# Altium integrated library Lattice ORCA Series 2.IntLib: 202 symbols (part 12 of 22)
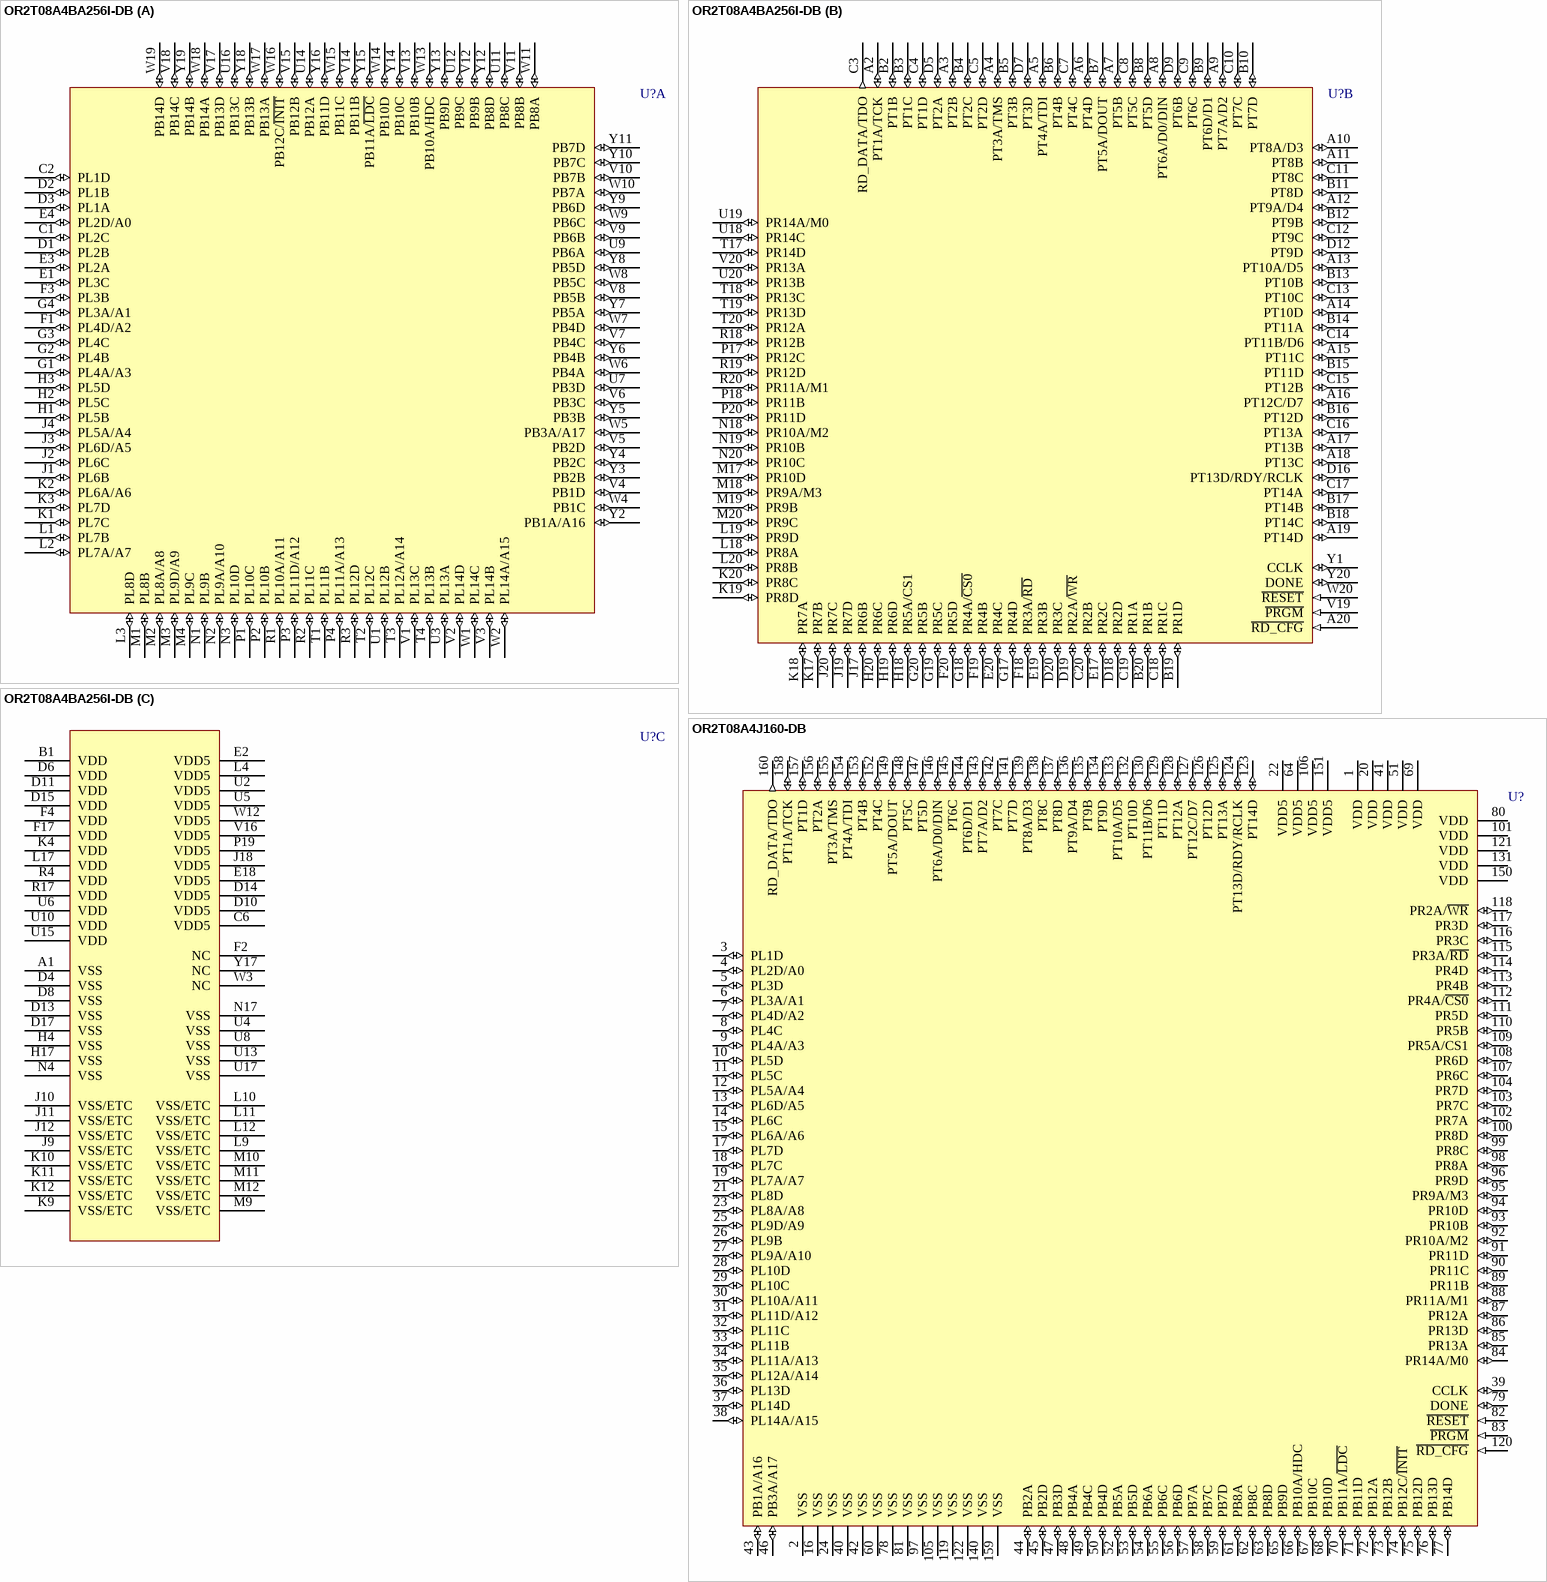
[diagram p203: symbols OR2T08A4BA256I-DB to OR2T08A4J160-DB]

## OR2T08A4BA256I-DB
designator U?
ORCA Series 2C FPGA: 3.3 V, Industrial Grade, 224 User I/Os.; PinConnectionRecommendation: Ground array of 'VSS-ETC' pins for enhanced thermal capability or leave unconnected.; Published: 21-May-2003; LatestRevisionDate: 13-Apr-2006; LatestRevisionNote: IPC-7351 Footprint Added.; DatasheetVersion: Jan-2003; PackageVersion: pkg_32, Aug-2005; PackageReference: BGA272; Publisher: Altium Limited; PackageDescription: 272-Ball Ball Grid Array (BGA272); ComponentLink1Description: Manufacturer Link; ComponentLink1URL: http://www.latticesemi.com/products/fpga/orca/orca2/index.cfm; ComponentLink2Description: Datasheet; ComponentLink2URL: http://www.latticesemi.com/lit/docs/datasheets/fpga/ds99-094fpga.pdf; ComponentLink3Description: Lattice Login; ComponentLink3URL: http://www.latticesemi.com/account/login.cfm
footprint BGA272 (BGA, 272-Leads, Body 27x27mm, Pitch 1.27mm)
3D model OR2T08A-BGA272 (272-Ball Ball Grid Array (BGA272))
part A pins: C1 PL2C (io), C2 PL1D (io), D1 PL2B (io), D2 PL1B (io), D3 PL1A (io), E1 PL3C (io), E3 PL2A (io), E4 PL2D/A0 (io), F1 PL4D/A2 (io), F3 PL3B (io), G1 PL4A/A3 (io), G2 PL4B (io), G3 PL4C (io), G4 PL3A/A1 (io), H1 PL5B (io), H2 PL5C (io), H3 PL5D (io), J1 PL6B (io), J2 PL6C (io), J3 PL6D/A5 (io), J4 PL5A/A4 (io), K1 PL7C (io), K2 PL6A/A6 (io), K3 PL7D (io), L1 PL7B (io), L2 PL7A/A7 (io), L3 PL8D (io), M1 PL8B (io), M2 PL8A/A8 (io), M3 PL9D/A9 (io), M4 PL9C (io), N1 PL9B (io), N2 PL9A/A10 (io), N3 PL10D (io), P1 PL10C (io), P2 PL10B (io), P3 PL11D/A12 (io), P4 PL11A/A13 (io), R1 PL10A/A11 (io), R2 PL11C (io), R3 PL12D (io), T1 PL11B (io), T2 PL12C (io), T3 PL12A/A14 (io), T4 PL13B (io), U1 PL12B (io), U3 PL13A (io), U7 PB3D (io), U9 PB6A (io), U11 PB8C (io), U12 PB9C (io), U14 PB12A (io), U16 PB13C (io), V1 PL13C (io), V2 PL14D (io), V3 PL14B (io), V4 PB1D (io), V5 PB2D (io), V6 PB3C (io), V7 PB4C (io), V8 PB5B (io), V9 PB6B (io), V10 PB7B (io), V11 PB8B (io), V12 PB9B (io), V13 PB10B (io), V14 PB11B (io), V15 PB12B (io), V17 PB13D (io), V18 PB14C (io), W1 PL14C (io), W2 PL14A/A15 (io), W4 PB1C (io), W5 PB3A/A17 (io), W6 PB4A (io), W7 PB4D (io), W8 PB5C (io), W9 PB6C (io), W10 PB7A (io), W11 PB8A (io), W13 PB10A/HDC (io), W14 PB10D (io), W15 PB11C (io), W16 PB12C/~{INIT} (io), W17 PB13A (io), W18 PB14A (io), W19 PB14D (io), Y2 PB1A/A16 (io), Y3 PB2B (io), Y4 PB2C (io), Y5 PB3B (io), Y6 PB4B (io), Y7 PB5A (io), Y8 PB5D (io), Y9 PB6D (io), Y10 PB7C (io), Y11 PB7D (io), Y12 PB8D (io), Y13 PB9D (io), Y14 PB10C (io), Y15 PB11A/~{LDC} (io), Y16 PB11D (io), Y18 PB13B (io), Y19 PB14B (io)
part B pins: A2 PT1A/TCK (io), A3 PT2B (io), A4 PT3A/TMS (io), A5 PT4A/TDI (io), A6 PT4D (io), A7 PT5B (io), A8 PT6A/D0/DIN (io), A9 PT7A/D2 (io), A10 PT8A/D3 (io), A11 PT8B (io), A12 PT9A/D4 (io), A13 PT10A/D5 (io), A14 PT10D (io), A15 PT11C (io), A16 PT12C/D7 (io), A17 PT13B (io), A18 PT13C (io), A19 PT14D (io), A20 ~{RD_CFG} (in), B2 PT1B (io), B3 PT1C (io), B4 PT2C (io), B5 PT3B (io), B6 PT4B (io), B7 PT5A/DOUT (io), B8 PT5D (io), B9 PT6D/D1 (io), B10 PT7D (io), B11 PT8D (io), B12 PT9B (io), B13 PT10B (io), B14 PT11A (io), B15 PT11D (io), B16 PT12D (io), B17 PT14B (io), B18 PT14C (io), B19 PR1D (io), B20 PR1B (io), C3 RD_DATA/TDO (out), C4 PT1D (io), C5 PT2D (io), C7 PT4C (io), C8 PT5C (io), C9 PT6C (io), C10 PT7C (io), C11 PT8C (io), C12 PT9C (io), C13 PT10C (io), C14 PT11B/D6 (io), C15 PT12B (io), C16 PT13A (io), C17 PT14A (io), C18 PR1C (io), C19 PR1A (io), C20 PR2B (io), D5 PT2A (io), D7 PT3D (io), D9 PT6B (io), D12 PT9D (io), D16 PT13D/RDY/RCLK (io), D18 PR2D (io), D19 PR2A/~{WR} (io), D20 PR3C (io), E17 PR2C (io), E19 PR3B (io), E20 PR4C (io), F18 PR3A/~{RD} (io), F19 PR4B (io), F20 PR5D (io), G17 PR4D (io), G18 PR4A/~{CS0} (io), G19 PR5C (io), G20 PR5B (io), H18 PR5A/CS1 (io), H19 PR6D (io), H20 PR6C (io), J17 PR6B (io), J19 PR7D (io), J20 PR7C (io), K17 PR7B (io), K18 PR7A (io), K19 PR8D (io), K20 PR8C (io), L18 PR8A (io), L19 PR9D (io), L20 PR8B (io), M17 PR10D (io), M18 PR9A/M3 (io), M19 PR9B (io), M20 PR9C (io), N18 PR10A/M2 (io), N19 PR10B (io), N20 PR10C (io), P17 PR12C (io), P18 PR11B (io), P20 PR11D (io), R18 PR12B (io), R19 PR12D (io), R20 PR11A/M1 (io), T17 PR14D (io), T18 PR13C (io), T19 PR13D (io), T20 PR12A (io), U18 PR14C (io), U19 PR14A/M0 (io), U20 PR13B (io), V19 ~{PRGM} (in), V20 PR13A (io), W20 ~{RESET} (in), Y1 CCLK (io), Y20 DONE (io)
part C pins: A1 VSS (power), B1 VDD (power), C6 VDD5 (power), D4 VSS (power), D6 VDD (power), D8 VSS (power), D10 VDD5 (power), D11 VDD (power), D13 VSS (power), D14 VDD5 (power), D15 VDD (power), D17 VSS (power), E2 VDD5 (power), E18 VDD5 (power), F2 NC, F4 VDD (power), F17 VDD (power), H4 VSS (power), H17 VSS (power), J9 VSS/ETC (power), J10 VSS/ETC (power), J11 VSS/ETC (power), J12 VSS/ETC (power), J18 VDD5 (power), K4 VDD (power), K9 VSS/ETC (power), K10 VSS/ETC (power), K11 VSS/ETC (power), K12 VSS/ETC (power), L4 VDD5 (power), L9 VSS/ETC (power), L10 VSS/ETC (power), L11 VSS/ETC (power), L12 VSS/ETC (power), L17 VDD (power), M9 VSS/ETC (power), M10 VSS/ETC (power), M11 VSS/ETC (power), M12 VSS/ETC (power), N4 VSS (power), N17 VSS (power), P19 VDD5 (power), R4 VDD (power), R17 VDD (power), U2 VDD5 (power), U4 VSS (power), U5 VDD5 (power), U6 VDD (power), U8 VSS (power), U10 VDD (power), U13 VSS (power), U15 VDD (power), U17 VSS (power), V16 VDD5 (power), W3 NC, W12 VDD5 (power), Y17 NC

## OR2T08A4J160-DB
designator U?
ORCA Series 2C FPGA: 3.3 V, Commercial Grade, 224 User I/Os.; Published: 21-May-2003; LatestRevisionDate: 13-Apr-2006; LatestRevisionNote: IPC-7351 Footprint Added.; DatasheetVersion: Jan-2003; PackageVersion: pkg_32, Aug-2005; PackageReference: PQFP160; Publisher: Altium Limited; PackageDescription: 160-Pin Quad Flat Pack 0.65 mm Pitch; Code_IPC: QFP65P3120X3120-160; ComponentLink1Description: Manufacturer Link; ComponentLink1URL: http://www.latticesemi.com/products/fpga/orca/orca2/index.cfm; ComponentLink2Description: Datasheet; ComponentLink2URL: http://www.latticesemi.com/lit/docs/datasheets/fpga/ds99-094fpga.pdf; ComponentLink3Description: Lattice Login; ComponentLink3URL: http://www.latticesemi.com/account/login.cfm
footprint PQFP160_N (QFP, 160-Leads, Body 28 x 28mm, Pitch 0.65mm, IPC Medium Density)
footprint PQFP160_L (QFP, 160-Leads, Body 28 x 28mm, Pitch 0.65mm, IPC High Density)
footprint PQFP160_M (QFP, 160-Leads, Body 28 x 28mm, Pitch 0.65mm, IPC Low Density)
3D model OR2T08A-PQFP160 (160-Pin Quad Flat Pack 0.65 mm Pitch)
pins: 1 VDD (power), 2 VSS (power), 3 PL1D (io), 4 PL2D/A0 (io), 5 PL3D (io), 6 PL3A/A1 (io), 7 PL4D/A2 (io), 8 PL4C (io), 9 PL4A/A3 (io), 10 PL5D (io), 11 PL5C (io), 12 PL5A/A4 (io), 13 PL6D/A5 (io), 14 PL6C (io), 15 PL6A/A6 (io), 16 VSS (power), 17 PL7D (io), 18 PL7C (io), 19 PL7A/A7 (io), 20 VDD (power), 21 PL8D (io), 22 VDD5 (power), 23 PL8A/A8 (io), 24 VSS (power), 25 PL9D/A9 (io), 26 PL9B (io), 27 PL9A/A10 (io), 28 PL10D (io), 29 PL10C (io), 30 PL10A/A11 (io), 31 PL11D/A12 (io), 32 PL11C (io), 33 PL11B (io), 34 PL11A/A13 (io), 35 PL12A/A14 (io), 36 PL13D (io), 37 PL14D (io), 38 PL14A/A15 (io), 39 CCLK (io), 40 VSS (power), 41 VDD (power), 42 VSS (power), 43 PB1A/A16 (io), 44 PB2A (io), 45 PB2D (io), 46 PB3A/A17 (io), 47 PB3D (io), 48 PB4A (io), 49 PB4C (io), 50 PB4D (io), 51 VDD (power), 52 PB5A (io), 53 PB5D (io), 54 PB6A (io), 55 PB6C (io), 56 PB6D (io), 57 PB7A (io), 58 PB7C (io), 59 PB7D (io), 60 VSS (power), 61 PB8A (io), 62 PB8C (io), 63 PB8D (io), 64 VDD5 (power), 65 PB9D (io), 66 PB10A/HDC (io), 67 PB10C (io), 68 PB10D (io), 69 VDD (power), 70 PB11A/~{LDC} (io), 71 PB11D (io), 72 PB12A (io), 73 PB12B (io), 74 PB12C/~{INIT} (io), 75 PB12D (io), 76 PB13D (io), 77 PB14D (io), 78 VSS (power), 79 DONE (io), 80 VDD (power), 81 VSS (power), 82 ~{RESET} (in), 83 ~{PRGM} (in), 84 PR14A/M0 (io), 85 PR13A (io), 86 PR13D (io), 87 PR12A (io), 88 PR11A/M1 (io), 89 PR11B (io), 90 PR11C (io), 91 PR11D (io), 92 PR10A/M2 (io), 93 PR10B (io), 94 PR10D (io), 95 PR9A/M3 (io), 96 PR9D (io), 97 VSS (power), 98 PR8A (io), 99 PR8C (io), 100 PR8D (io), 101 VDD (power), 102 PR7A (io), 103 PR7C (io), 104 PR7D (io), 105 VSS (power), 106 VDD5 (power), 107 PR6C (io), 108 PR6D (io), 109 PR5A/CS1 (io), 110 PR5B (io), 111 PR5D (io), 112 PR4A/~{CS0} (io), 113 PR4B (io), 114 PR4D (io), 115 PR3A/~{RD} (io), 116 PR3C (io), 117 PR3D (io), 118 PR2A/~{WR} (io), 119 VSS (power), 120 ~{RD_CFG} (in), 121 VDD (power), 122 VSS (power), 123 PT14D (io), 124 PT13D/RDY/RCLK (io), 125 PT13A (io), 126 PT12D (io), 127 PT12C/D7 (io), 128 PT12A (io), 129 PT11D (io), 130 PT11B/D6 (io), 131 VDD (power), 132 PT10D (io), 133 PT10A/D5 (io), 134 PT9D (io), 135 PT9B (io), 136 PT9A/D4 (io), 137 PT8D (io), 138 PT8C (io), 139 PT8A/D3 (io), 140 VSS (power), 141 PT7D (io), 142 PT7C (io), 143 PT7A/D2 (io), 144 PT6D/D1 (io), 145 PT6C (io), 146 PT6A/D0/DIN (io), 147 PT5D (io), 148 PT5C (io), 149 PT5A/DOUT (io), 150 VDD (power), 151 VDD5 (power), 152 PT4C (io), 153 PT4B (io), 154 PT4A/TDI (io), 155 PT3A/TMS (io), 156 PT2A (io), 157 PT1D (io), 158 PT1A/TCK (io), 159 VSS (power), 160 RD_DATA/TDO (out)

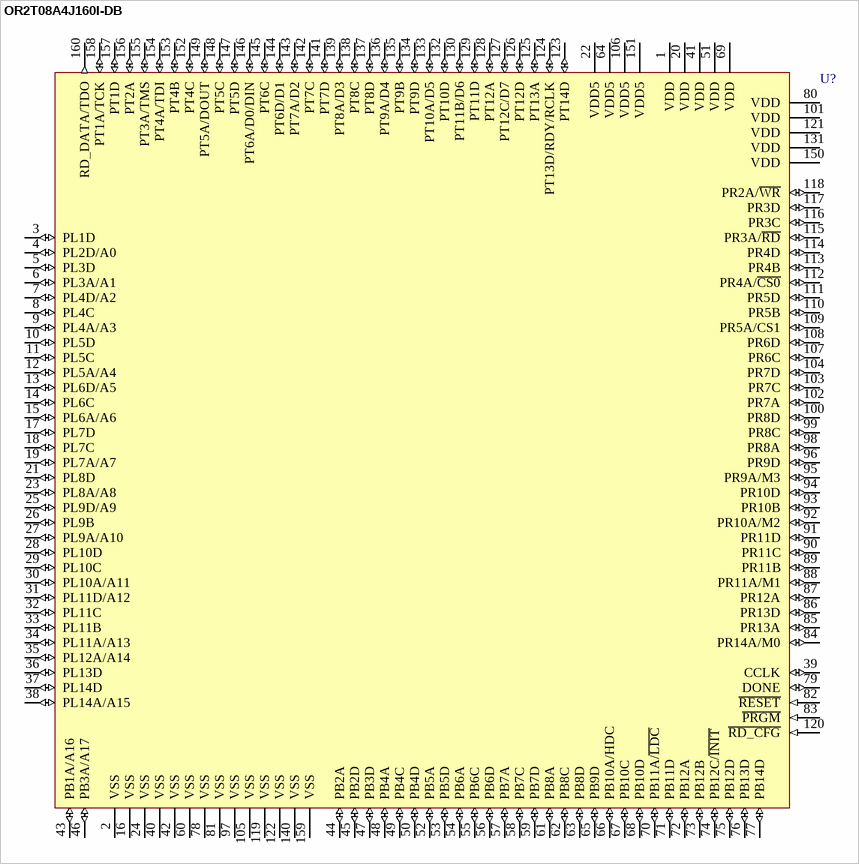
[diagram p91: symbol OR2T08A4J160I-DB]

## OR2T08A4J160I-DB
designator U?
ORCA Series 2C FPGA: 3.3 V, Industrial Grade, 224 User I/Os.; Published: 21-May-2003; LatestRevisionDate: 13-Apr-2006; LatestRevisionNote: IPC-7351 Footprint Added.; DatasheetVersion: Jan-2003; PackageVersion: pkg_32, Aug-2005; PackageReference: PQFP160; Publisher: Altium Limited; PackageDescription: 160-Pin Quad Flat Pack 0.65 mm Pitch; Code_IPC: QFP65P3120X3120-160; ComponentLink1Description: Manufacturer Link; ComponentLink1URL: http://www.latticesemi.com/products/fpga/orca/orca2/index.cfm; ComponentLink2Description: Datasheet; ComponentLink2URL: http://www.latticesemi.com/lit/docs/datasheets/fpga/ds99-094fpga.pdf; ComponentLink3Description: Lattice Login; ComponentLink3URL: http://www.latticesemi.com/account/login.cfm
footprint PQFP160_N (QFP, 160-Leads, Body 28 x 28mm, Pitch 0.65mm, IPC Medium Density)
footprint PQFP160_L (QFP, 160-Leads, Body 28 x 28mm, Pitch 0.65mm, IPC High Density)
footprint PQFP160_M (QFP, 160-Leads, Body 28 x 28mm, Pitch 0.65mm, IPC Low Density)
3D model OR2T08A-PQFP160 (160-Pin Quad Flat Pack 0.65 mm Pitch)
pins: 1 VDD (power), 2 VSS (power), 3 PL1D (io), 4 PL2D/A0 (io), 5 PL3D (io), 6 PL3A/A1 (io), 7 PL4D/A2 (io), 8 PL4C (io), 9 PL4A/A3 (io), 10 PL5D (io), 11 PL5C (io), 12 PL5A/A4 (io), 13 PL6D/A5 (io), 14 PL6C (io), 15 PL6A/A6 (io), 16 VSS (power), 17 PL7D (io), 18 PL7C (io), 19 PL7A/A7 (io), 20 VDD (power), 21 PL8D (io), 22 VDD5 (power), 23 PL8A/A8 (io), 24 VSS (power), 25 PL9D/A9 (io), 26 PL9B (io), 27 PL9A/A10 (io), 28 PL10D (io), 29 PL10C (io), 30 PL10A/A11 (io), 31 PL11D/A12 (io), 32 PL11C (io), 33 PL11B (io), 34 PL11A/A13 (io), 35 PL12A/A14 (io), 36 PL13D (io), 37 PL14D (io), 38 PL14A/A15 (io), 39 CCLK (io), 40 VSS (power), 41 VDD (power), 42 VSS (power), 43 PB1A/A16 (io), 44 PB2A (io), 45 PB2D (io), 46 PB3A/A17 (io), 47 PB3D (io), 48 PB4A (io), 49 PB4C (io), 50 PB4D (io), 51 VDD (power), 52 PB5A (io), 53 PB5D (io), 54 PB6A (io), 55 PB6C (io), 56 PB6D (io), 57 PB7A (io), 58 PB7C (io), 59 PB7D (io), 60 VSS (power), 61 PB8A (io), 62 PB8C (io), 63 PB8D (io), 64 VDD5 (power), 65 PB9D (io), 66 PB10A/HDC (io), 67 PB10C (io), 68 PB10D (io), 69 VDD (power), 70 PB11A/~{LDC} (io), 71 PB11D (io), 72 PB12A (io), 73 PB12B (io), 74 PB12C/~{INIT} (io), 75 PB12D (io), 76 PB13D (io), 77 PB14D (io), 78 VSS (power), 79 DONE (io), 80 VDD (power), 81 VSS (power), 82 ~{RESET} (in), 83 ~{PRGM} (in), 84 PR14A/M0 (io), 85 PR13A (io), 86 PR13D (io), 87 PR12A (io), 88 PR11A/M1 (io), 89 PR11B (io), 90 PR11C (io), 91 PR11D (io), 92 PR10A/M2 (io), 93 PR10B (io), 94 PR10D (io), 95 PR9A/M3 (io), 96 PR9D (io), 97 VSS (power), 98 PR8A (io), 99 PR8C (io), 100 PR8D (io), 101 VDD (power), 102 PR7A (io), 103 PR7C (io), 104 PR7D (io), 105 VSS (power), 106 VDD5 (power), 107 PR6C (io), 108 PR6D (io), 109 PR5A/CS1 (io), 110 PR5B (io), 111 PR5D (io), 112 PR4A/~{CS0} (io), 113 PR4B (io), 114 PR4D (io), 115 PR3A/~{RD} (io), 116 PR3C (io), 117 PR3D (io), 118 PR2A/~{WR} (io), 119 VSS (power), 120 ~{RD_CFG} (in), 121 VDD (power), 122 VSS (power), 123 PT14D (io), 124 PT13D/RDY/RCLK (io), 125 PT13A (io), 126 PT12D (io), 127 PT12C/D7 (io), 128 PT12A (io), 129 PT11D (io), 130 PT11B/D6 (io), 131 VDD (power), 132 PT10D (io), 133 PT10A/D5 (io), 134 PT9D (io), 135 PT9B (io), 136 PT9A/D4 (io), 137 PT8D (io), 138 PT8C (io), 139 PT8A/D3 (io), 140 VSS (power), 141 PT7D (io), 142 PT7C (io), 143 PT7A/D2 (io), 144 PT6D/D1 (io), 145 PT6C (io), 146 PT6A/D0/DIN (io), 147 PT5D (io), 148 PT5C (io), 149 PT5A/DOUT (io), 150 VDD (power), 151 VDD5 (power), 152 PT4C (io), 153 PT4B (io), 154 PT4A/TDI (io), 155 PT3A/TMS (io), 156 PT2A (io), 157 PT1D (io), 158 PT1A/TCK (io), 159 VSS (power), 160 RD_DATA/TDO (out)

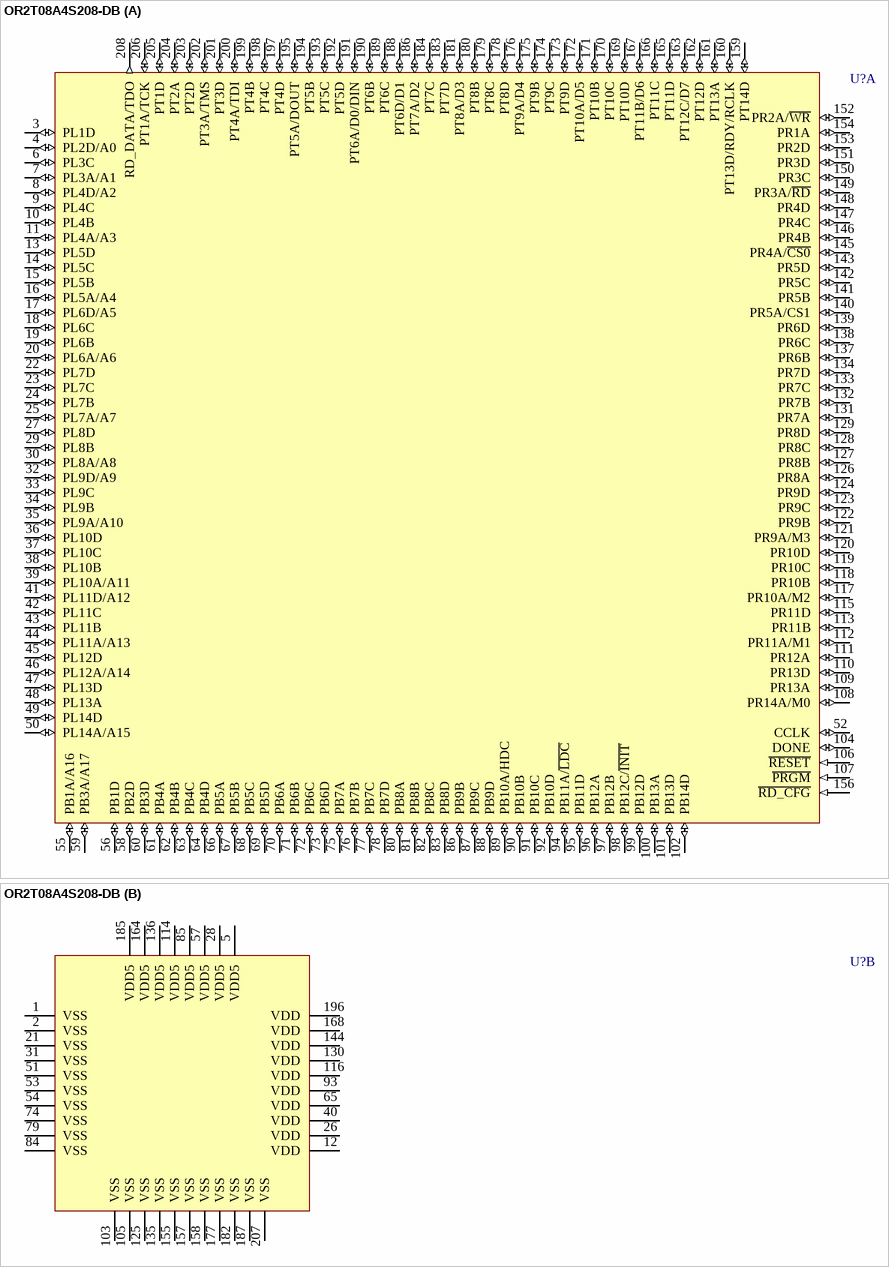
[diagram p92: symbol OR2T08A4S208-DB]

## OR2T08A4S208-DB
designator U?
ORCA Series 2C FPGA: 3.3 V, Commercial Grade, 224 User I/Os.; Published: 21-May-2003; LatestRevisionDate: 13-Apr-2006; LatestRevisionNote: IPC-7351 Footprint Added.; DatasheetVersion: Jan-2003; PackageVersion: pkg_32, Aug-2005; PackageReference: PQFP208; Publisher: Altium Limited; PackageDescription: 208-Pin Plastic Quad Flat Pack (PQFP208); Code_JEDEC: MO-143-FAI; ComponentLink1Description: Manufacturer Link; ComponentLink1URL: http://www.latticesemi.com/products/fpga/orca/orca2/index.cfm; ComponentLink2Description: Datasheet; ComponentLink2URL: http://www.latticesemi.com/lit/docs/datasheets/fpga/ds99-094fpga.pdf; ComponentLink3Description: Lattice Login; ComponentLink3URL: http://www.latticesemi.com/account/login.cfm
footprint PQFP208_N (Shrink QFP, 208-Leads, Body 28x28mm, Pitch 0.5mm, IPC Medium Density)
footprint PQFP208_L (Shrink QFP, 208-Leads, Body 28x28mm, Pitch 0.5mm, IPC High Density)
footprint PQFP208_M (Shrink QFP, 208-Leads, Body 28x28mm, Pitch 0.5mm, IPC Low Density)
3D model OR2T08A-PQFP208 (208-Pin Plastic Quad Flat Pack (PQFP208))
part A pins: 3 PL1D (io), 4 PL2D/A0 (io), 6 PL3C (io), 7 PL3A/A1 (io), 8 PL4D/A2 (io), 9 PL4C (io), 10 PL4B (io), 11 PL4A/A3 (io), 13 PL5D (io), 14 PL5C (io), 15 PL5B (io), 16 PL5A/A4 (io), 17 PL6D/A5 (io), 18 PL6C (io), 19 PL6B (io), 20 PL6A/A6 (io), 22 PL7D (io), 23 PL7C (io), 24 PL7B (io), 25 PL7A/A7 (io), 27 PL8D (io), 29 PL8B (io), 30 PL8A/A8 (io), 32 PL9D/A9 (io), 33 PL9C (io), 34 PL9B (io), 35 PL9A/A10 (io), 36 PL10D (io), 37 PL10C (io), 38 PL10B (io), 39 PL10A/A11 (io), 41 PL11D/A12 (io), 42 PL11C (io), 43 PL11B (io), 44 PL11A/A13 (io), 45 PL12D (io), 46 PL12A/A14 (io), 47 PL13D (io), 48 PL13A (io), 49 PL14D (io), 50 PL14A/A15 (io), 52 CCLK (io), 55 PB1A/A16 (io), 56 PB1D (io), 58 PB2D (io), 59 PB3A/A17 (io), 60 PB3D (io), 61 PB4A (io), 62 PB4B (io), 63 PB4C (io), 64 PB4D (io), 66 PB5A (io), 67 PB5B (io), 68 PB5C (io), 69 PB5D (io), 70 PB6A (io), 71 PB6B (io), 72 PB6C (io), 73 PB6D (io), 75 PB7A (io), 76 PB7B (io), 77 PB7C (io), 78 PB7D (io), 80 PB8A (io), 81 PB8B (io), 82 PB8C (io), 83 PB8D (io), 86 PB9B (io), 87 PB9C (io), 88 PB9D (io), 89 PB10A/HDC (io), 90 PB10B (io), 91 PB10C (io), 92 PB10D (io), 94 PB11A/~{LDC} (io), 95 PB11D (io), 96 PB12A (io), 97 PB12B (io), 98 PB12C/~{INIT} (io), 99 PB12D (io), 100 PB13A (io), 101 PB13D (io), 102 PB14D (io), 104 DONE (io), 106 ~{RESET} (in), 107 ~{PRGM} (in), 108 PR14A/M0 (io), 109 PR13A (io), 110 PR13D (io), 111 PR12A (io), 112 PR11A/M1 (io), 113 PR11B (io), 115 PR11D (io), 117 PR10A/M2 (io), 118 PR10B (io), 119 PR10C (io), 120 PR10D (io), 121 PR9A/M3 (io), 122 PR9B (io), 123 PR9C (io), 124 PR9D (io), 126 PR8A (io), 127 PR8B (io), 128 PR8C (io), 129 PR8D (io), 131 PR7A (io), 132 PR7B (io), 133 PR7C (io), 134 PR7D (io), 137 PR6B (io), 138 PR6C (io), 139 PR6D (io), 140 PR5A/CS1 (io), 141 PR5B (io), 142 PR5C (io), 143 PR5D (io), 145 PR4A/~{CS0} (io), 146 PR4B (io), 147 PR4C (io), 148 PR4D (io), 149 PR3A/~{RD} (io), 150 PR3C (io), 151 PR3D (io), 152 PR2A/~{WR} (io), 153 PR2D (io), 154 PR1A (io), 156 ~{RD_CFG} (in), 159 PT14D (io), 160 PT13D/RDY/RCLK (io), 161 PT13A (io), 162 PT12D (io), 163 PT12C/D7 (io), 165 PT11D (io), 166 PT11C (io), 167 PT11B/D6 (io), 169 PT10D (io), 170 PT10C (io), 171 PT10B (io), 172 PT10A/D5 (io), 173 PT9D (io), 174 PT9C (io), 175 PT9B (io), 176 PT9A/D4 (io), 178 PT8D (io), 179 PT8C (io), 180 PT8B (io), 181 PT8A/D3 (io), 183 PT7D (io), 184 PT7C (io), 186 PT7A/D2 (io), 188 PT6D/D1 (io), 189 PT6C (io), 190 PT6B (io), 191 PT6A/D0/DIN (io), 192 PT5D (io), 193 PT5C (io), 194 PT5B (io), 195 PT5A/DOUT (io), 197 PT4D (io), 198 PT4C (io), 199 PT4B (io), 200 PT4A/TDI (io), 201 PT3D (io), 202 PT3A/TMS (io), 203 PT2D (io), 204 PT2A (io), 205 PT1D (io), 206 PT1A/TCK (io), 208 RD_DATA/TDO (out)
part B pins: 1 VSS (power), 2 VSS (power), 5 VDD5 (power), 12 VDD (power), 21 VSS (power), 26 VDD (power), 28 VDD5 (power), 31 VSS (power), 40 VDD (power), 51 VSS (power), 53 VSS (power), 54 VSS (power), 57 VDD5 (power), 65 VDD (power), 74 VSS (power), 79 VSS (power), 84 VSS (power), 85 VDD5 (power), 93 VDD (power), 103 VSS (power), 105 VSS (power), 114 VDD5 (power), 116 VDD (power), 125 VSS (power), 130 VDD (power), 135 VSS (power), 136 VDD5 (power), 144 VDD (power), 155 VSS (power), 157 VSS (power), 158 VSS (power), 164 VDD5 (power), 168 VDD (power), 177 VSS (power), 182 VSS (power), 185 VDD5 (power), 187 VSS (power), 196 VDD (power), 207 VSS (power)

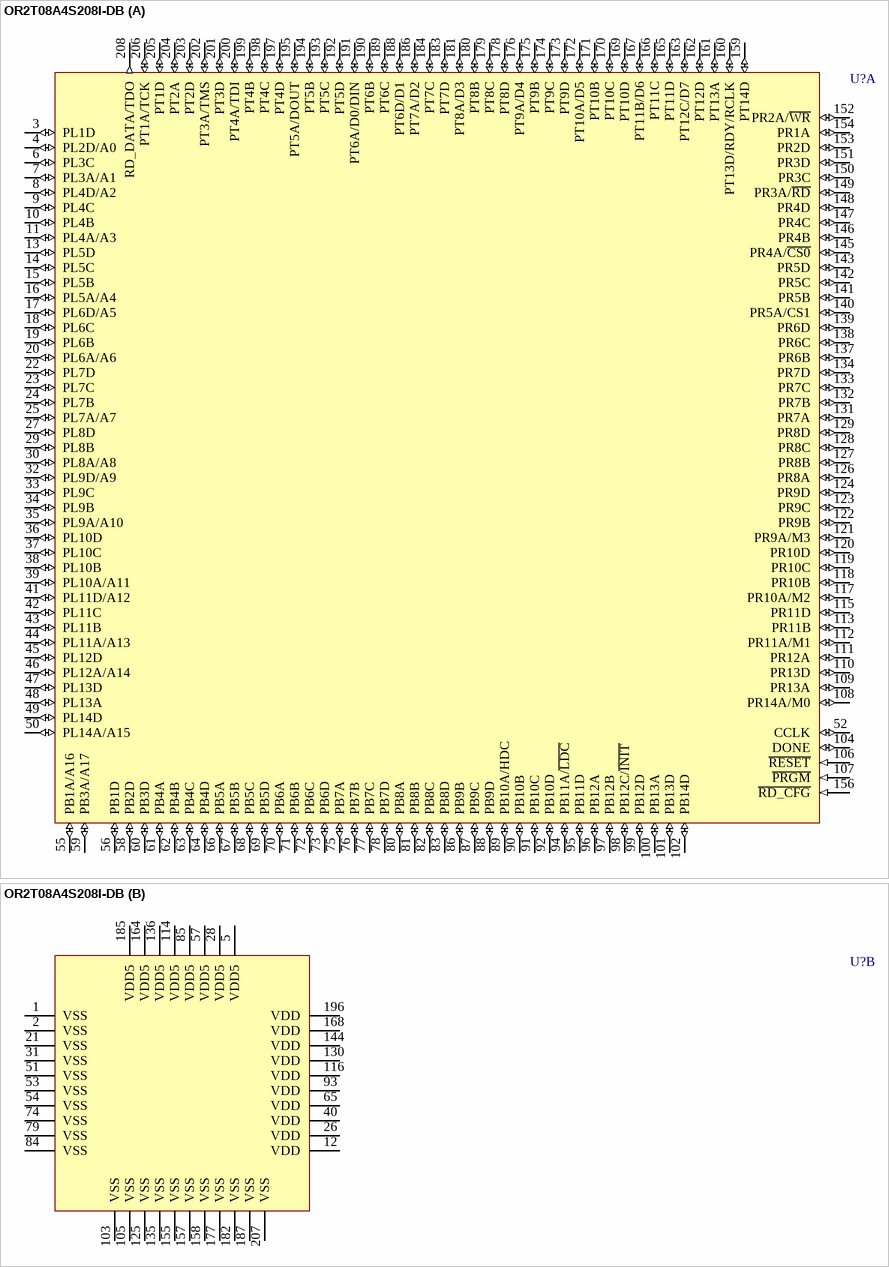
[diagram p93: symbol OR2T08A4S208I-DB]

## OR2T08A4S208I-DB
designator U?
ORCA Series 2C FPGA: 3.3 V, Industrial Grade, 224 User I/Os.; Published: 21-May-2003; LatestRevisionDate: 13-Apr-2006; LatestRevisionNote: IPC-7351 Footprint Added.; DatasheetVersion: Jan-2003; PackageVersion: pkg_32, Aug-2005; PackageReference: PQFP208; Publisher: Altium Limited; PackageDescription: 208-Pin Plastic Quad Flat Pack (PQFP208); Code_JEDEC: MO-143-FAI; ComponentLink1Description: Manufacturer Link; ComponentLink1URL: http://www.latticesemi.com/products/fpga/orca/orca2/index.cfm; ComponentLink2Description: Datasheet; ComponentLink2URL: http://www.latticesemi.com/lit/docs/datasheets/fpga/ds99-094fpga.pdf; ComponentLink3Description: Lattice Login; ComponentLink3URL: http://www.latticesemi.com/account/login.cfm
footprint PQFP208_N (Shrink QFP, 208-Leads, Body 28x28mm, Pitch 0.5mm, IPC Medium Density)
footprint PQFP208_L (Shrink QFP, 208-Leads, Body 28x28mm, Pitch 0.5mm, IPC High Density)
footprint PQFP208_M (Shrink QFP, 208-Leads, Body 28x28mm, Pitch 0.5mm, IPC Low Density)
3D model OR2T08A-PQFP208 (208-Pin Plastic Quad Flat Pack (PQFP208))
part A pins: 3 PL1D (io), 4 PL2D/A0 (io), 6 PL3C (io), 7 PL3A/A1 (io), 8 PL4D/A2 (io), 9 PL4C (io), 10 PL4B (io), 11 PL4A/A3 (io), 13 PL5D (io), 14 PL5C (io), 15 PL5B (io), 16 PL5A/A4 (io), 17 PL6D/A5 (io), 18 PL6C (io), 19 PL6B (io), 20 PL6A/A6 (io), 22 PL7D (io), 23 PL7C (io), 24 PL7B (io), 25 PL7A/A7 (io), 27 PL8D (io), 29 PL8B (io), 30 PL8A/A8 (io), 32 PL9D/A9 (io), 33 PL9C (io), 34 PL9B (io), 35 PL9A/A10 (io), 36 PL10D (io), 37 PL10C (io), 38 PL10B (io), 39 PL10A/A11 (io), 41 PL11D/A12 (io), 42 PL11C (io), 43 PL11B (io), 44 PL11A/A13 (io), 45 PL12D (io), 46 PL12A/A14 (io), 47 PL13D (io), 48 PL13A (io), 49 PL14D (io), 50 PL14A/A15 (io), 52 CCLK (io), 55 PB1A/A16 (io), 56 PB1D (io), 58 PB2D (io), 59 PB3A/A17 (io), 60 PB3D (io), 61 PB4A (io), 62 PB4B (io), 63 PB4C (io), 64 PB4D (io), 66 PB5A (io), 67 PB5B (io), 68 PB5C (io), 69 PB5D (io), 70 PB6A (io), 71 PB6B (io), 72 PB6C (io), 73 PB6D (io), 75 PB7A (io), 76 PB7B (io), 77 PB7C (io), 78 PB7D (io), 80 PB8A (io), 81 PB8B (io), 82 PB8C (io), 83 PB8D (io), 86 PB9B (io), 87 PB9C (io), 88 PB9D (io), 89 PB10A/HDC (io), 90 PB10B (io), 91 PB10C (io), 92 PB10D (io), 94 PB11A/~{LDC} (io), 95 PB11D (io), 96 PB12A (io), 97 PB12B (io), 98 PB12C/~{INIT} (io), 99 PB12D (io), 100 PB13A (io), 101 PB13D (io), 102 PB14D (io), 104 DONE (io), 106 ~{RESET} (in), 107 ~{PRGM} (in), 108 PR14A/M0 (io), 109 PR13A (io), 110 PR13D (io), 111 PR12A (io), 112 PR11A/M1 (io), 113 PR11B (io), 115 PR11D (io), 117 PR10A/M2 (io), 118 PR10B (io), 119 PR10C (io), 120 PR10D (io), 121 PR9A/M3 (io), 122 PR9B (io), 123 PR9C (io), 124 PR9D (io), 126 PR8A (io), 127 PR8B (io), 128 PR8C (io), 129 PR8D (io), 131 PR7A (io), 132 PR7B (io), 133 PR7C (io), 134 PR7D (io), 137 PR6B (io), 138 PR6C (io), 139 PR6D (io), 140 PR5A/CS1 (io), 141 PR5B (io), 142 PR5C (io), 143 PR5D (io), 145 PR4A/~{CS0} (io), 146 PR4B (io), 147 PR4C (io), 148 PR4D (io), 149 PR3A/~{RD} (io), 150 PR3C (io), 151 PR3D (io), 152 PR2A/~{WR} (io), 153 PR2D (io), 154 PR1A (io), 156 ~{RD_CFG} (in), 159 PT14D (io), 160 PT13D/RDY/RCLK (io), 161 PT13A (io), 162 PT12D (io), 163 PT12C/D7 (io), 165 PT11D (io), 166 PT11C (io), 167 PT11B/D6 (io), 169 PT10D (io), 170 PT10C (io), 171 PT10B (io), 172 PT10A/D5 (io), 173 PT9D (io), 174 PT9C (io), 175 PT9B (io), 176 PT9A/D4 (io), 178 PT8D (io), 179 PT8C (io), 180 PT8B (io), 181 PT8A/D3 (io), 183 PT7D (io), 184 PT7C (io), 186 PT7A/D2 (io), 188 PT6D/D1 (io), 189 PT6C (io), 190 PT6B (io), 191 PT6A/D0/DIN (io), 192 PT5D (io), 193 PT5C (io), 194 PT5B (io), 195 PT5A/DOUT (io), 197 PT4D (io), 198 PT4C (io), 199 PT4B (io), 200 PT4A/TDI (io), 201 PT3D (io), 202 PT3A/TMS (io), 203 PT2D (io), 204 PT2A (io), 205 PT1D (io), 206 PT1A/TCK (io), 208 RD_DATA/TDO (out)
part B pins: 1 VSS (power), 2 VSS (power), 5 VDD5 (power), 12 VDD (power), 21 VSS (power), 26 VDD (power), 28 VDD5 (power), 31 VSS (power), 40 VDD (power), 51 VSS (power), 53 VSS (power), 54 VSS (power), 57 VDD5 (power), 65 VDD (power), 74 VSS (power), 79 VSS (power), 84 VSS (power), 85 VDD5 (power), 93 VDD (power), 103 VSS (power), 105 VSS (power), 114 VDD5 (power), 116 VDD (power), 125 VSS (power), 130 VDD (power), 135 VSS (power), 136 VDD5 (power), 144 VDD (power), 155 VSS (power), 157 VSS (power), 158 VSS (power), 164 VDD5 (power), 168 VDD (power), 177 VSS (power), 182 VSS (power), 185 VDD5 (power), 187 VSS (power), 196 VDD (power), 207 VSS (power)

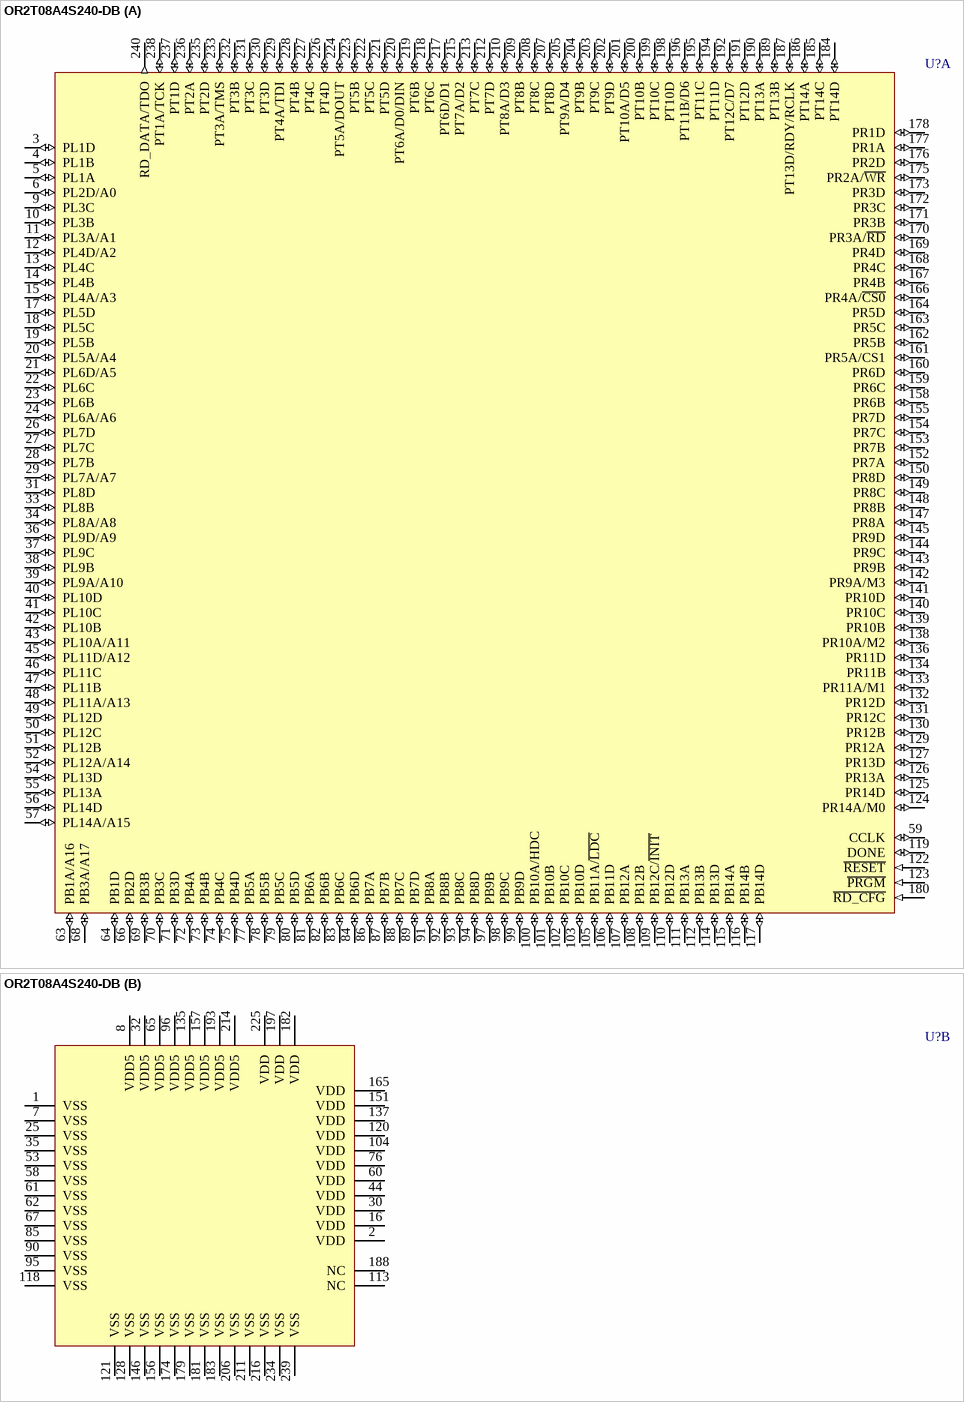
[diagram p94: symbol OR2T08A4S240-DB]

## OR2T08A4S240-DB
designator U?
ORCA Series 2C FPGA: 3.3 V, Commercial Grade, 224 User I/Os.; Published: 21-May-2003; LatestRevisionDate: 13-Apr-2006; LatestRevisionNote: IPC-7351 Footprint Added.; DatasheetVersion: Jan-2003; PackageVersion: pkg_32, Aug-2005; PackageReference: PQFP240; Publisher: Altium Limited; PackageDescription: 240-Pin Shrink Quad Flat Pack 0.5 mm Pitch; ComponentLink1Description: Manufacturer Link; ComponentLink1URL: http://www.latticesemi.com/products/fpga/orca/orca2/index.cfm; ComponentLink2Description: Datasheet; ComponentLink2URL: http://www.latticesemi.com/lit/docs/datasheets/fpga/ds99-094fpga.pdf; ComponentLink3Description: Lattice Login; ComponentLink3URL: http://www.latticesemi.com/account/login.cfm
footprint PQFP240_N (Shrink QFP, 240-Leads, Body 32x32mm, Pitch 0.5mm, IPC Medium Density)
footprint PQFP240_L (Shrink QFP, 240-Leads, Body 32x32mm, Pitch 0.5mm, IPC High Density)
footprint PQFP240_M (Shrink QFP, 240-Leads, Body 32x32mm, Pitch 0.5mm, IPC Low Density)
3D model OR2T08A-PQFP240 (240-Pin Shrink Quad Flat Pack 0.5 mm Pitch)
part A pins: 3 PL1D (io), 4 PL1B (io), 5 PL1A (io), 6 PL2D/A0 (io), 9 PL3C (io), 10 PL3B (io), 11 PL3A/A1 (io), 12 PL4D/A2 (io), 13 PL4C (io), 14 PL4B (io), 15 PL4A/A3 (io), 17 PL5D (io), 18 PL5C (io), 19 PL5B (io), 20 PL5A/A4 (io), 21 PL6D/A5 (io), 22 PL6C (io), 23 PL6B (io), 24 PL6A/A6 (io), 26 PL7D (io), 27 PL7C (io), 28 PL7B (io), 29 PL7A/A7 (io), 31 PL8D (io), 33 PL8B (io), 34 PL8A/A8 (io), 36 PL9D/A9 (io), 37 PL9C (io), 38 PL9B (io), 39 PL9A/A10 (io), 40 PL10D (io), 41 PL10C (io), 42 PL10B (io), 43 PL10A/A11 (io), 45 PL11D/A12 (io), 46 PL11C (io), 47 PL11B (io), 48 PL11A/A13 (io), 49 PL12D (io), 50 PL12C (io), 51 PL12B (io), 52 PL12A/A14 (io), 54 PL13D (io), 55 PL13A (io), 56 PL14D (io), 57 PL14A/A15 (io), 59 CCLK (io), 63 PB1A/A16 (io), 64 PB1D (io), 66 PB2D (io), 68 PB3A/A17 (io), 69 PB3B (io), 70 PB3C (io), 71 PB3D (io), 72 PB4A (io), 73 PB4B (io), 74 PB4C (io), 75 PB4D (io), 77 PB5A (io), 78 PB5B (io), 79 PB5C (io), 80 PB5D (io), 81 PB6A (io), 82 PB6B (io), 83 PB6C (io), 84 PB6D (io), 86 PB7A (io), 87 PB7B (io), 88 PB7C (io), 89 PB7D (io), 91 PB8A (io), 92 PB8B (io), 93 PB8C (io), 94 PB8D (io), 97 PB9B (io), 98 PB9C (io), 99 PB9D (io), 100 PB10A/HDC (io), 101 PB10B (io), 102 PB10C (io), 103 PB10D (io), 105 PB11A/~{LDC} (io), 106 PB11D (io), 107 PB12A (io), 108 PB12B (io), 109 PB12C/~{INIT} (io), 110 PB12D (io), 111 PB13A (io), 112 PB13B (io), 114 PB13D (io), 115 PB14A (io), 116 PB14B (io), 117 PB14D (io), 119 DONE (io), 122 ~{RESET} (in), 123 ~{PRGM} (in), 124 PR14A/M0 (io), 125 PR14D (io), 126 PR13A (io), 127 PR13D (io), 129 PR12A (io), 130 PR12B (io), 131 PR12C (io), 132 PR12D (io), 133 PR11A/M1 (io), 134 PR11B (io), 136 PR11D (io), 138 PR10A/M2 (io), 139 PR10B (io), 140 PR10C (io), 141 PR10D (io), 142 PR9A/M3 (io), 143 PR9B (io), 144 PR9C (io), 145 PR9D (io), 147 PR8A (io), 148 PR8B (io), 149 PR8C (io), 150 PR8D (io), 152 PR7A (io), 153 PR7B (io), 154 PR7C (io), 155 PR7D (io), 158 PR6B (io), 159 PR6C (io), 160 PR6D (io), 161 PR5A/CS1 (io), 162 PR5B (io), 163 PR5C (io), 164 PR5D (io), 166 PR4A/~{CS0} (io), 167 PR4B (io), 168 PR4C (io), 169 PR4D (io), 170 PR3A/~{RD} (io), 171 PR3B (io), 172 PR3C (io), 173 PR3D (io), 175 PR2A/~{WR} (io), 176 PR2D (io), 177 PR1A (io), 178 PR1D (io), 180 ~{RD_CFG} (in), 184 PT14D (io), 185 PT14C (io), 186 PT14A (io), 187 PT13D/RDY/RCLK (io), 189 PT13B (io), 190 PT13A (io), 191 PT12D (io), 192 PT12C/D7 (io), 194 PT11D (io), 195 PT11C (io), 196 PT11B/D6 (io), 198 PT10D (io), 199 PT10C (io), 200 PT10B (io), 201 PT10A/D5 (io), 202 PT9D (io), 203 PT9C (io), 204 PT9B (io), 205 PT9A/D4 (io), 207 PT8D (io), 208 PT8C (io), 209 PT8B (io), 210 PT8A/D3 (io), 212 PT7D (io), 213 PT7C (io), 215 PT7A/D2 (io), 217 PT6D/D1 (io), 218 PT6C (io), 219 PT6B (io), 220 PT6A/D0/DIN (io), 221 PT5D (io), 222 PT5C (io), 223 PT5B (io), 224 PT5A/DOUT (io), 226 PT4D (io), 227 PT4C (io), 228 PT4B (io), 229 PT4A/TDI (io), 230 PT3D (io), 231 PT3C (io), 232 PT3B (io), 233 PT3A/TMS (io), 235 PT2D (io), 236 PT2A (io), 237 PT1D (io), 238 PT1A/TCK (io), 240 RD_DATA/TDO (out)
part B pins: 1 VSS (power), 2 VDD (power), 7 VSS (power), 8 VDD5 (power), 16 VDD (power), 25 VSS (power), 30 VDD (power), 32 VDD5 (power), 35 VSS (power), 44 VDD (power), 53 VSS (power), 58 VSS (power), 60 VDD (power), 61 VSS (power), 62 VSS (power), 65 VDD5 (power), 67 VSS (power), 76 VDD (power), 85 VSS (power), 90 VSS (power), 95 VSS (power), 96 VDD5 (power), 104 VDD (power), 113 NC, 118 VSS (power), 120 VDD (power), 121 VSS (power), 128 VSS (power), 135 VDD5 (power), 137 VDD (power), 146 VSS (power), 151 VDD (power), 156 VSS (power), 157 VDD5 (power), 165 VDD (power), 174 VSS (power), 179 VSS (power), 181 VSS (power), 182 VDD (power), 183 VSS (power), 188 NC, 193 VDD5 (power), 197 VDD (power), 206 VSS (power), 211 VSS (power), 214 VDD5 (power), 216 VSS (power), 225 VDD (power), 234 VSS (power), 239 VSS (power)

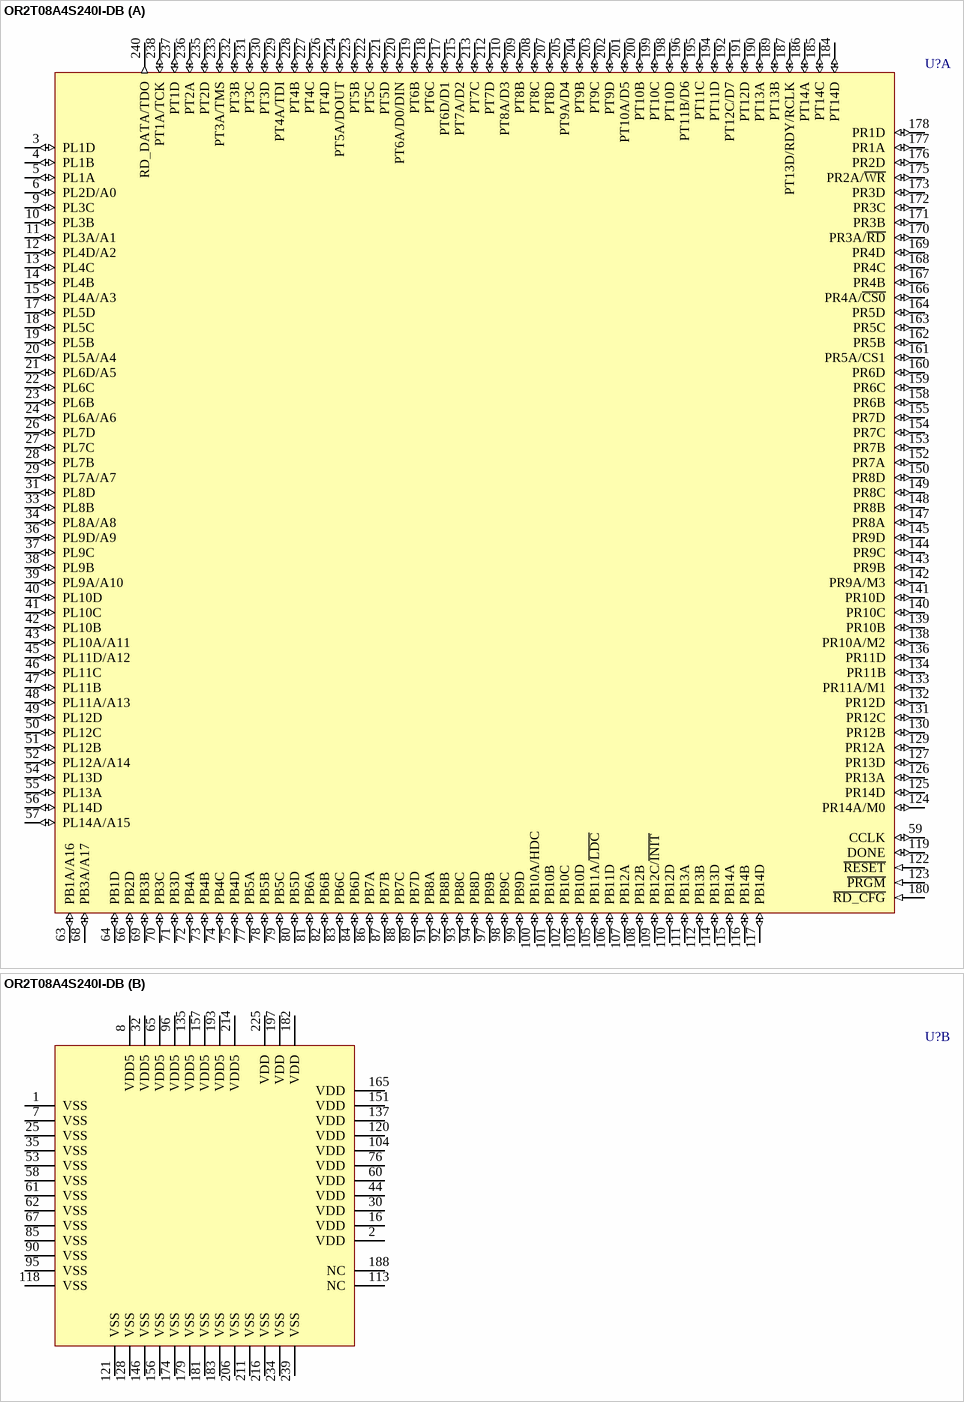
[diagram p95: symbol OR2T08A4S240I-DB]

## OR2T08A4S240I-DB
designator U?
ORCA Series 2C FPGA: 3.3 V, Industrial Grade, 224 User I/Os.; Published: 21-May-2003; LatestRevisionDate: 13-Apr-2006; LatestRevisionNote: IPC-7351 Footprint Added.; DatasheetVersion: Jan-2003; PackageVersion: pkg_32, Aug-2005; PackageReference: PQFP240; Publisher: Altium Limited; PackageDescription: 240-Pin Shrink Quad Flat Pack 0.5 mm Pitch; ComponentLink1Description: Manufacturer Link; ComponentLink1URL: http://www.latticesemi.com/products/fpga/orca/orca2/index.cfm; ComponentLink2Description: Datasheet; ComponentLink2URL: http://www.latticesemi.com/lit/docs/datasheets/fpga/ds99-094fpga.pdf; ComponentLink3Description: Lattice Login; ComponentLink3URL: http://www.latticesemi.com/account/login.cfm
footprint PQFP240_N (Shrink QFP, 240-Leads, Body 32x32mm, Pitch 0.5mm, IPC Medium Density)
footprint PQFP240_L (Shrink QFP, 240-Leads, Body 32x32mm, Pitch 0.5mm, IPC High Density)
footprint PQFP240_M (Shrink QFP, 240-Leads, Body 32x32mm, Pitch 0.5mm, IPC Low Density)
3D model OR2T08A-PQFP240 (240-Pin Shrink Quad Flat Pack 0.5 mm Pitch)
part A pins: 3 PL1D (io), 4 PL1B (io), 5 PL1A (io), 6 PL2D/A0 (io), 9 PL3C (io), 10 PL3B (io), 11 PL3A/A1 (io), 12 PL4D/A2 (io), 13 PL4C (io), 14 PL4B (io), 15 PL4A/A3 (io), 17 PL5D (io), 18 PL5C (io), 19 PL5B (io), 20 PL5A/A4 (io), 21 PL6D/A5 (io), 22 PL6C (io), 23 PL6B (io), 24 PL6A/A6 (io), 26 PL7D (io), 27 PL7C (io), 28 PL7B (io), 29 PL7A/A7 (io), 31 PL8D (io), 33 PL8B (io), 34 PL8A/A8 (io), 36 PL9D/A9 (io), 37 PL9C (io), 38 PL9B (io), 39 PL9A/A10 (io), 40 PL10D (io), 41 PL10C (io), 42 PL10B (io), 43 PL10A/A11 (io), 45 PL11D/A12 (io), 46 PL11C (io), 47 PL11B (io), 48 PL11A/A13 (io), 49 PL12D (io), 50 PL12C (io), 51 PL12B (io), 52 PL12A/A14 (io), 54 PL13D (io), 55 PL13A (io), 56 PL14D (io), 57 PL14A/A15 (io), 59 CCLK (io), 63 PB1A/A16 (io), 64 PB1D (io), 66 PB2D (io), 68 PB3A/A17 (io), 69 PB3B (io), 70 PB3C (io), 71 PB3D (io), 72 PB4A (io), 73 PB4B (io), 74 PB4C (io), 75 PB4D (io), 77 PB5A (io), 78 PB5B (io), 79 PB5C (io), 80 PB5D (io), 81 PB6A (io), 82 PB6B (io), 83 PB6C (io), 84 PB6D (io), 86 PB7A (io), 87 PB7B (io), 88 PB7C (io), 89 PB7D (io), 91 PB8A (io), 92 PB8B (io), 93 PB8C (io), 94 PB8D (io), 97 PB9B (io), 98 PB9C (io), 99 PB9D (io), 100 PB10A/HDC (io), 101 PB10B (io), 102 PB10C (io), 103 PB10D (io), 105 PB11A/~{LDC} (io), 106 PB11D (io), 107 PB12A (io), 108 PB12B (io), 109 PB12C/~{INIT} (io), 110 PB12D (io), 111 PB13A (io), 112 PB13B (io), 114 PB13D (io), 115 PB14A (io), 116 PB14B (io), 117 PB14D (io), 119 DONE (io), 122 ~{RESET} (in), 123 ~{PRGM} (in), 124 PR14A/M0 (io), 125 PR14D (io), 126 PR13A (io), 127 PR13D (io), 129 PR12A (io), 130 PR12B (io), 131 PR12C (io), 132 PR12D (io), 133 PR11A/M1 (io), 134 PR11B (io), 136 PR11D (io), 138 PR10A/M2 (io), 139 PR10B (io), 140 PR10C (io), 141 PR10D (io), 142 PR9A/M3 (io), 143 PR9B (io), 144 PR9C (io), 145 PR9D (io), 147 PR8A (io), 148 PR8B (io), 149 PR8C (io), 150 PR8D (io), 152 PR7A (io), 153 PR7B (io), 154 PR7C (io), 155 PR7D (io), 158 PR6B (io), 159 PR6C (io), 160 PR6D (io), 161 PR5A/CS1 (io), 162 PR5B (io), 163 PR5C (io), 164 PR5D (io), 166 PR4A/~{CS0} (io), 167 PR4B (io), 168 PR4C (io), 169 PR4D (io), 170 PR3A/~{RD} (io), 171 PR3B (io), 172 PR3C (io), 173 PR3D (io), 175 PR2A/~{WR} (io), 176 PR2D (io), 177 PR1A (io), 178 PR1D (io), 180 ~{RD_CFG} (in), 184 PT14D (io), 185 PT14C (io), 186 PT14A (io), 187 PT13D/RDY/RCLK (io), 189 PT13B (io), 190 PT13A (io), 191 PT12D (io), 192 PT12C/D7 (io), 194 PT11D (io), 195 PT11C (io), 196 PT11B/D6 (io), 198 PT10D (io), 199 PT10C (io), 200 PT10B (io), 201 PT10A/D5 (io), 202 PT9D (io), 203 PT9C (io), 204 PT9B (io), 205 PT9A/D4 (io), 207 PT8D (io), 208 PT8C (io), 209 PT8B (io), 210 PT8A/D3 (io), 212 PT7D (io), 213 PT7C (io), 215 PT7A/D2 (io), 217 PT6D/D1 (io), 218 PT6C (io), 219 PT6B (io), 220 PT6A/D0/DIN (io), 221 PT5D (io), 222 PT5C (io), 223 PT5B (io), 224 PT5A/DOUT (io), 226 PT4D (io), 227 PT4C (io), 228 PT4B (io), 229 PT4A/TDI (io), 230 PT3D (io), 231 PT3C (io), 232 PT3B (io), 233 PT3A/TMS (io), 235 PT2D (io), 236 PT2A (io), 237 PT1D (io), 238 PT1A/TCK (io), 240 RD_DATA/TDO (out)
part B pins: 1 VSS (power), 2 VDD (power), 7 VSS (power), 8 VDD5 (power), 16 VDD (power), 25 VSS (power), 30 VDD (power), 32 VDD5 (power), 35 VSS (power), 44 VDD (power), 53 VSS (power), 58 VSS (power), 60 VDD (power), 61 VSS (power), 62 VSS (power), 65 VDD5 (power), 67 VSS (power), 76 VDD (power), 85 VSS (power), 90 VSS (power), 95 VSS (power), 96 VDD5 (power), 104 VDD (power), 113 NC, 118 VSS (power), 120 VDD (power), 121 VSS (power), 128 VSS (power), 135 VDD5 (power), 137 VDD (power), 146 VSS (power), 151 VDD (power), 156 VSS (power), 157 VDD5 (power), 165 VDD (power), 174 VSS (power), 179 VSS (power), 181 VSS (power), 182 VDD (power), 183 VSS (power), 188 NC, 193 VDD5 (power), 197 VDD (power), 206 VSS (power), 211 VSS (power), 214 VDD5 (power), 216 VSS (power), 225 VDD (power), 234 VSS (power), 239 VSS (power)

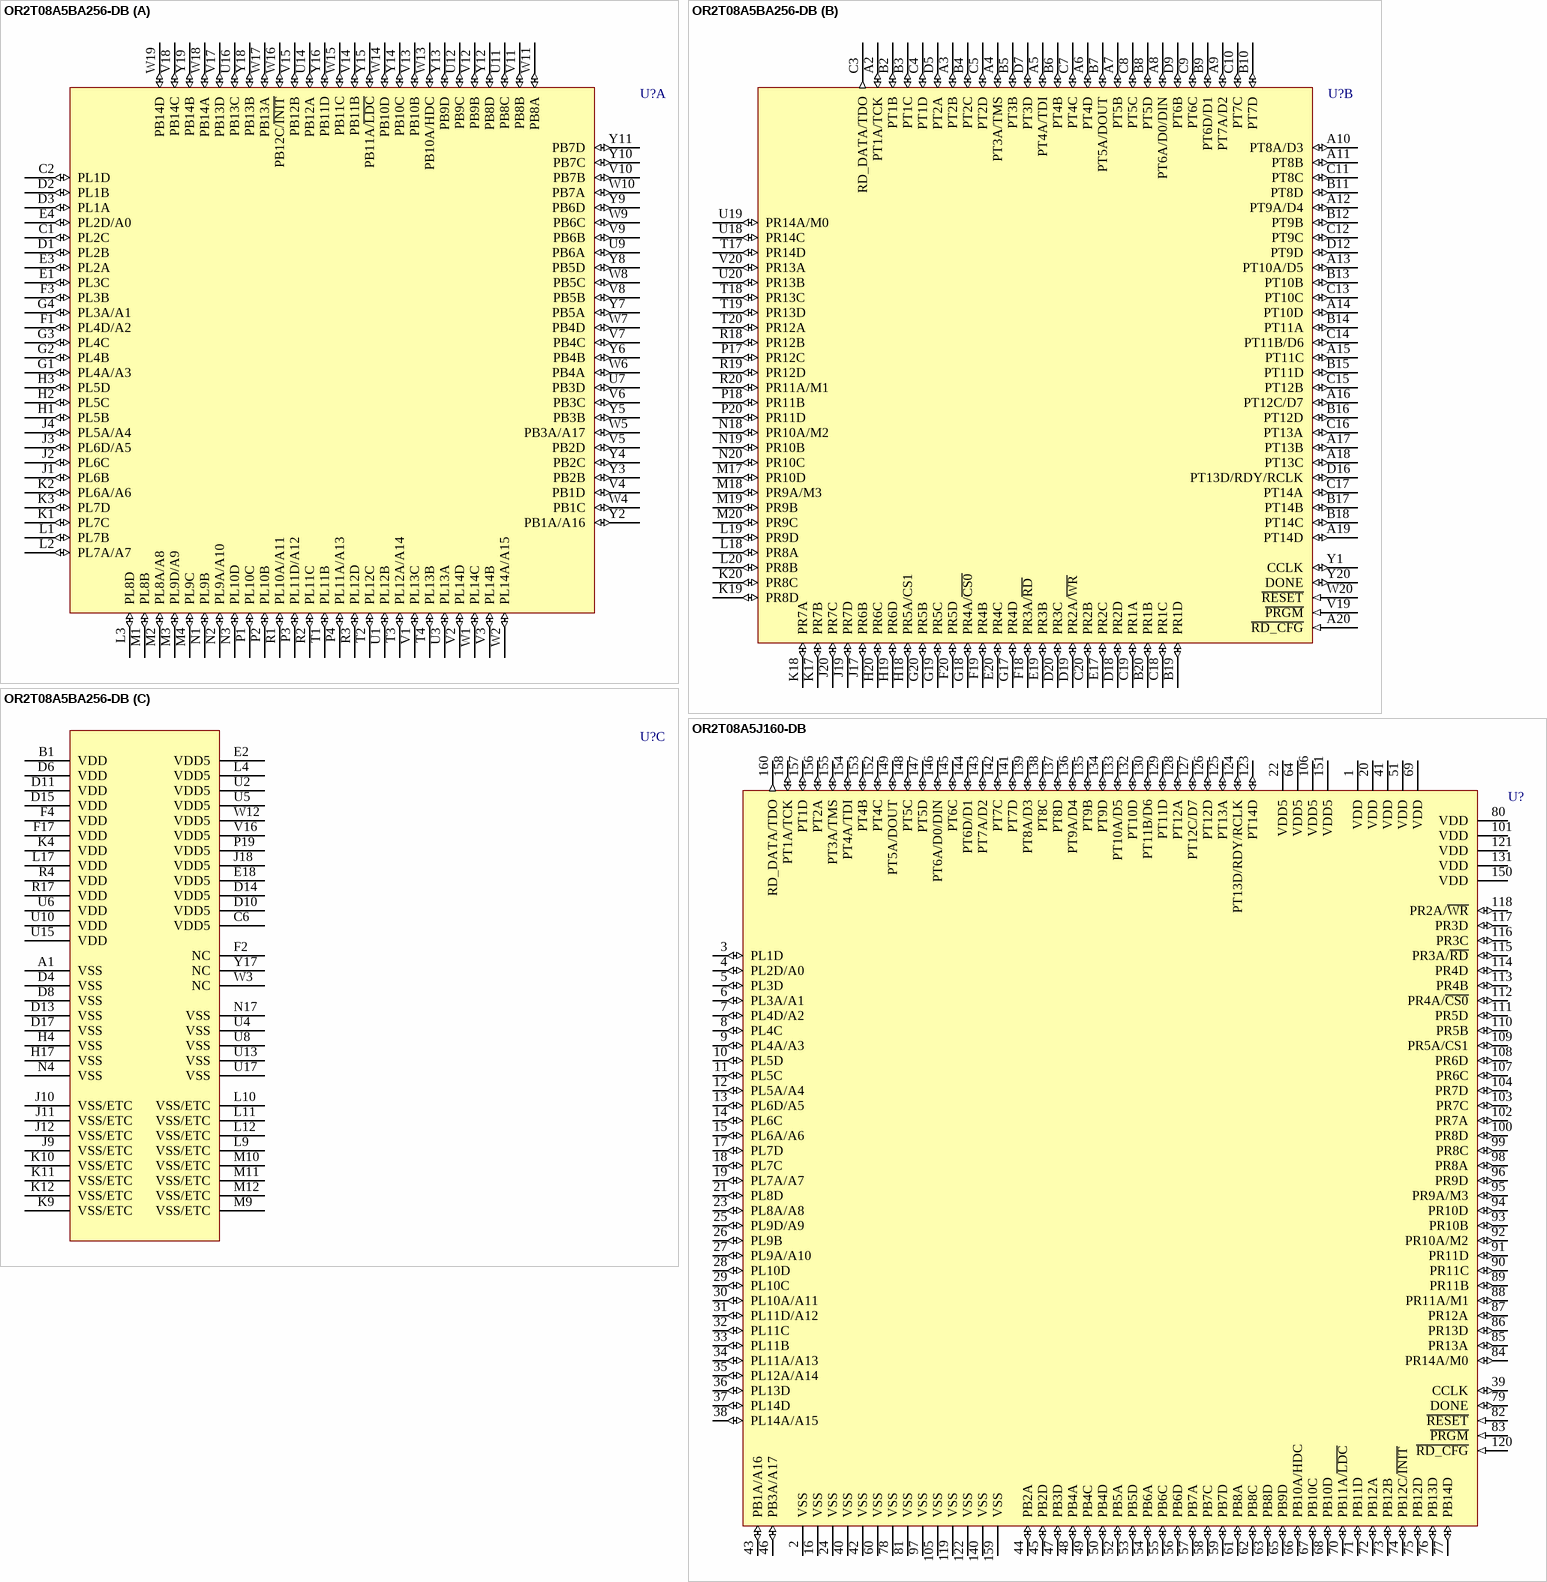
[diagram p96: symbols OR2T08A5BA256-DB to OR2T08A5J160-DB]

## OR2T08A5BA256-DB
designator U?
ORCA Series 2C FPGA: 3.3 V, Commercial Grade, 224 User I/Os.; PinConnectionRecommendation: Ground array of 'VSS-ETC' pins for enhanced thermal capability or leave unconnected.; Published: 21-May-2003; LatestRevisionDate: 13-Apr-2006; LatestRevisionNote: IPC-7351 Footprint Added.; DatasheetVersion: Jan-2003; PackageVersion: pkg_32, Aug-2005; PackageReference: BGA272; Publisher: Altium Limited; PackageDescription: 272-Ball Ball Grid Array (BGA272); ComponentLink1Description: Manufacturer Link; ComponentLink1URL: http://www.latticesemi.com/products/fpga/orca/orca2/index.cfm; ComponentLink2Description: Datasheet; ComponentLink2URL: http://www.latticesemi.com/lit/docs/datasheets/fpga/ds99-094fpga.pdf; ComponentLink3Description: Lattice Login; ComponentLink3URL: http://www.latticesemi.com/account/login.cfm
footprint BGA272 (BGA, 272-Leads, Body 27x27mm, Pitch 1.27mm)
3D model OR2T08A-BGA272 (272-Ball Ball Grid Array (BGA272))
part A pins: C1 PL2C (io), C2 PL1D (io), D1 PL2B (io), D2 PL1B (io), D3 PL1A (io), E1 PL3C (io), E3 PL2A (io), E4 PL2D/A0 (io), F1 PL4D/A2 (io), F3 PL3B (io), G1 PL4A/A3 (io), G2 PL4B (io), G3 PL4C (io), G4 PL3A/A1 (io), H1 PL5B (io), H2 PL5C (io), H3 PL5D (io), J1 PL6B (io), J2 PL6C (io), J3 PL6D/A5 (io), J4 PL5A/A4 (io), K1 PL7C (io), K2 PL6A/A6 (io), K3 PL7D (io), L1 PL7B (io), L2 PL7A/A7 (io), L3 PL8D (io), M1 PL8B (io), M2 PL8A/A8 (io), M3 PL9D/A9 (io), M4 PL9C (io), N1 PL9B (io), N2 PL9A/A10 (io), N3 PL10D (io), P1 PL10C (io), P2 PL10B (io), P3 PL11D/A12 (io), P4 PL11A/A13 (io), R1 PL10A/A11 (io), R2 PL11C (io), R3 PL12D (io), T1 PL11B (io), T2 PL12C (io), T3 PL12A/A14 (io), T4 PL13B (io), U1 PL12B (io), U3 PL13A (io), U7 PB3D (io), U9 PB6A (io), U11 PB8C (io), U12 PB9C (io), U14 PB12A (io), U16 PB13C (io), V1 PL13C (io), V2 PL14D (io), V3 PL14B (io), V4 PB1D (io), V5 PB2D (io), V6 PB3C (io), V7 PB4C (io), V8 PB5B (io), V9 PB6B (io), V10 PB7B (io), V11 PB8B (io), V12 PB9B (io), V13 PB10B (io), V14 PB11B (io), V15 PB12B (io), V17 PB13D (io), V18 PB14C (io), W1 PL14C (io), W2 PL14A/A15 (io), W4 PB1C (io), W5 PB3A/A17 (io), W6 PB4A (io), W7 PB4D (io), W8 PB5C (io), W9 PB6C (io), W10 PB7A (io), W11 PB8A (io), W13 PB10A/HDC (io), W14 PB10D (io), W15 PB11C (io), W16 PB12C/~{INIT} (io), W17 PB13A (io), W18 PB14A (io), W19 PB14D (io), Y2 PB1A/A16 (io), Y3 PB2B (io), Y4 PB2C (io), Y5 PB3B (io), Y6 PB4B (io), Y7 PB5A (io), Y8 PB5D (io), Y9 PB6D (io), Y10 PB7C (io), Y11 PB7D (io), Y12 PB8D (io), Y13 PB9D (io), Y14 PB10C (io), Y15 PB11A/~{LDC} (io), Y16 PB11D (io), Y18 PB13B (io), Y19 PB14B (io)
part B pins: A2 PT1A/TCK (io), A3 PT2B (io), A4 PT3A/TMS (io), A5 PT4A/TDI (io), A6 PT4D (io), A7 PT5B (io), A8 PT6A/D0/DIN (io), A9 PT7A/D2 (io), A10 PT8A/D3 (io), A11 PT8B (io), A12 PT9A/D4 (io), A13 PT10A/D5 (io), A14 PT10D (io), A15 PT11C (io), A16 PT12C/D7 (io), A17 PT13B (io), A18 PT13C (io), A19 PT14D (io), A20 ~{RD_CFG} (in), B2 PT1B (io), B3 PT1C (io), B4 PT2C (io), B5 PT3B (io), B6 PT4B (io), B7 PT5A/DOUT (io), B8 PT5D (io), B9 PT6D/D1 (io), B10 PT7D (io), B11 PT8D (io), B12 PT9B (io), B13 PT10B (io), B14 PT11A (io), B15 PT11D (io), B16 PT12D (io), B17 PT14B (io), B18 PT14C (io), B19 PR1D (io), B20 PR1B (io), C3 RD_DATA/TDO (out), C4 PT1D (io), C5 PT2D (io), C7 PT4C (io), C8 PT5C (io), C9 PT6C (io), C10 PT7C (io), C11 PT8C (io), C12 PT9C (io), C13 PT10C (io), C14 PT11B/D6 (io), C15 PT12B (io), C16 PT13A (io), C17 PT14A (io), C18 PR1C (io), C19 PR1A (io), C20 PR2B (io), D5 PT2A (io), D7 PT3D (io), D9 PT6B (io), D12 PT9D (io), D16 PT13D/RDY/RCLK (io), D18 PR2D (io), D19 PR2A/~{WR} (io), D20 PR3C (io), E17 PR2C (io), E19 PR3B (io), E20 PR4C (io), F18 PR3A/~{RD} (io), F19 PR4B (io), F20 PR5D (io), G17 PR4D (io), G18 PR4A/~{CS0} (io), G19 PR5C (io), G20 PR5B (io), H18 PR5A/CS1 (io), H19 PR6D (io), H20 PR6C (io), J17 PR6B (io), J19 PR7D (io), J20 PR7C (io), K17 PR7B (io), K18 PR7A (io), K19 PR8D (io), K20 PR8C (io), L18 PR8A (io), L19 PR9D (io), L20 PR8B (io), M17 PR10D (io), M18 PR9A/M3 (io), M19 PR9B (io), M20 PR9C (io), N18 PR10A/M2 (io), N19 PR10B (io), N20 PR10C (io), P17 PR12C (io), P18 PR11B (io), P20 PR11D (io), R18 PR12B (io), R19 PR12D (io), R20 PR11A/M1 (io), T17 PR14D (io), T18 PR13C (io), T19 PR13D (io), T20 PR12A (io), U18 PR14C (io), U19 PR14A/M0 (io), U20 PR13B (io), V19 ~{PRGM} (in), V20 PR13A (io), W20 ~{RESET} (in), Y1 CCLK (io), Y20 DONE (io)
part C pins: A1 VSS (power), B1 VDD (power), C6 VDD5 (power), D4 VSS (power), D6 VDD (power), D8 VSS (power), D10 VDD5 (power), D11 VDD (power), D13 VSS (power), D14 VDD5 (power), D15 VDD (power), D17 VSS (power), E2 VDD5 (power), E18 VDD5 (power), F2 NC, F4 VDD (power), F17 VDD (power), H4 VSS (power), H17 VSS (power), J9 VSS/ETC (power), J10 VSS/ETC (power), J11 VSS/ETC (power), J12 VSS/ETC (power), J18 VDD5 (power), K4 VDD (power), K9 VSS/ETC (power), K10 VSS/ETC (power), K11 VSS/ETC (power), K12 VSS/ETC (power), L4 VDD5 (power), L9 VSS/ETC (power), L10 VSS/ETC (power), L11 VSS/ETC (power), L12 VSS/ETC (power), L17 VDD (power), M9 VSS/ETC (power), M10 VSS/ETC (power), M11 VSS/ETC (power), M12 VSS/ETC (power), N4 VSS (power), N17 VSS (power), P19 VDD5 (power), R4 VDD (power), R17 VDD (power), U2 VDD5 (power), U4 VSS (power), U5 VDD5 (power), U6 VDD (power), U8 VSS (power), U10 VDD (power), U13 VSS (power), U15 VDD (power), U17 VSS (power), V16 VDD5 (power), W3 NC, W12 VDD5 (power), Y17 NC

## OR2T08A5J160-DB
designator U?
ORCA Series 2C FPGA: 3.3 V, Commercial Grade, 224 User I/Os.; Published: 21-May-2003; LatestRevisionDate: 13-Apr-2006; LatestRevisionNote: IPC-7351 Footprint Added.; DatasheetVersion: Jan-2003; PackageVersion: pkg_32, Aug-2005; PackageReference: PQFP160; Publisher: Altium Limited; PackageDescription: 160-Pin Quad Flat Pack 0.65 mm Pitch; Code_IPC: QFP65P3120X3120-160; ComponentLink1Description: Manufacturer Link; ComponentLink1URL: http://www.latticesemi.com/products/fpga/orca/orca2/index.cfm; ComponentLink2Description: Datasheet; ComponentLink2URL: http://www.latticesemi.com/lit/docs/datasheets/fpga/ds99-094fpga.pdf; ComponentLink3Description: Lattice Login; ComponentLink3URL: http://www.latticesemi.com/account/login.cfm
footprint PQFP160_N (QFP, 160-Leads, Body 28 x 28mm, Pitch 0.65mm, IPC Medium Density)
footprint PQFP160_L (QFP, 160-Leads, Body 28 x 28mm, Pitch 0.65mm, IPC High Density)
footprint PQFP160_M (QFP, 160-Leads, Body 28 x 28mm, Pitch 0.65mm, IPC Low Density)
3D model OR2T08A-PQFP160 (160-Pin Quad Flat Pack 0.65 mm Pitch)
pins: 1 VDD (power), 2 VSS (power), 3 PL1D (io), 4 PL2D/A0 (io), 5 PL3D (io), 6 PL3A/A1 (io), 7 PL4D/A2 (io), 8 PL4C (io), 9 PL4A/A3 (io), 10 PL5D (io), 11 PL5C (io), 12 PL5A/A4 (io), 13 PL6D/A5 (io), 14 PL6C (io), 15 PL6A/A6 (io), 16 VSS (power), 17 PL7D (io), 18 PL7C (io), 19 PL7A/A7 (io), 20 VDD (power), 21 PL8D (io), 22 VDD5 (power), 23 PL8A/A8 (io), 24 VSS (power), 25 PL9D/A9 (io), 26 PL9B (io), 27 PL9A/A10 (io), 28 PL10D (io), 29 PL10C (io), 30 PL10A/A11 (io), 31 PL11D/A12 (io), 32 PL11C (io), 33 PL11B (io), 34 PL11A/A13 (io), 35 PL12A/A14 (io), 36 PL13D (io), 37 PL14D (io), 38 PL14A/A15 (io), 39 CCLK (io), 40 VSS (power), 41 VDD (power), 42 VSS (power), 43 PB1A/A16 (io), 44 PB2A (io), 45 PB2D (io), 46 PB3A/A17 (io), 47 PB3D (io), 48 PB4A (io), 49 PB4C (io), 50 PB4D (io), 51 VDD (power), 52 PB5A (io), 53 PB5D (io), 54 PB6A (io), 55 PB6C (io), 56 PB6D (io), 57 PB7A (io), 58 PB7C (io), 59 PB7D (io), 60 VSS (power), 61 PB8A (io), 62 PB8C (io), 63 PB8D (io), 64 VDD5 (power), 65 PB9D (io), 66 PB10A/HDC (io), 67 PB10C (io), 68 PB10D (io), 69 VDD (power), 70 PB11A/~{LDC} (io), 71 PB11D (io), 72 PB12A (io), 73 PB12B (io), 74 PB12C/~{INIT} (io), 75 PB12D (io), 76 PB13D (io), 77 PB14D (io), 78 VSS (power), 79 DONE (io), 80 VDD (power), 81 VSS (power), 82 ~{RESET} (in), 83 ~{PRGM} (in), 84 PR14A/M0 (io), 85 PR13A (io), 86 PR13D (io), 87 PR12A (io), 88 PR11A/M1 (io), 89 PR11B (io), 90 PR11C (io), 91 PR11D (io), 92 PR10A/M2 (io), 93 PR10B (io), 94 PR10D (io), 95 PR9A/M3 (io), 96 PR9D (io), 97 VSS (power), 98 PR8A (io), 99 PR8C (io), 100 PR8D (io), 101 VDD (power), 102 PR7A (io), 103 PR7C (io), 104 PR7D (io), 105 VSS (power), 106 VDD5 (power), 107 PR6C (io), 108 PR6D (io), 109 PR5A/CS1 (io), 110 PR5B (io), 111 PR5D (io), 112 PR4A/~{CS0} (io), 113 PR4B (io), 114 PR4D (io), 115 PR3A/~{RD} (io), 116 PR3C (io), 117 PR3D (io), 118 PR2A/~{WR} (io), 119 VSS (power), 120 ~{RD_CFG} (in), 121 VDD (power), 122 VSS (power), 123 PT14D (io), 124 PT13D/RDY/RCLK (io), 125 PT13A (io), 126 PT12D (io), 127 PT12C/D7 (io), 128 PT12A (io), 129 PT11D (io), 130 PT11B/D6 (io), 131 VDD (power), 132 PT10D (io), 133 PT10A/D5 (io), 134 PT9D (io), 135 PT9B (io), 136 PT9A/D4 (io), 137 PT8D (io), 138 PT8C (io), 139 PT8A/D3 (io), 140 VSS (power), 141 PT7D (io), 142 PT7C (io), 143 PT7A/D2 (io), 144 PT6D/D1 (io), 145 PT6C (io), 146 PT6A/D0/DIN (io), 147 PT5D (io), 148 PT5C (io), 149 PT5A/DOUT (io), 150 VDD (power), 151 VDD5 (power), 152 PT4C (io), 153 PT4B (io), 154 PT4A/TDI (io), 155 PT3A/TMS (io), 156 PT2A (io), 157 PT1D (io), 158 PT1A/TCK (io), 159 VSS (power), 160 RD_DATA/TDO (out)

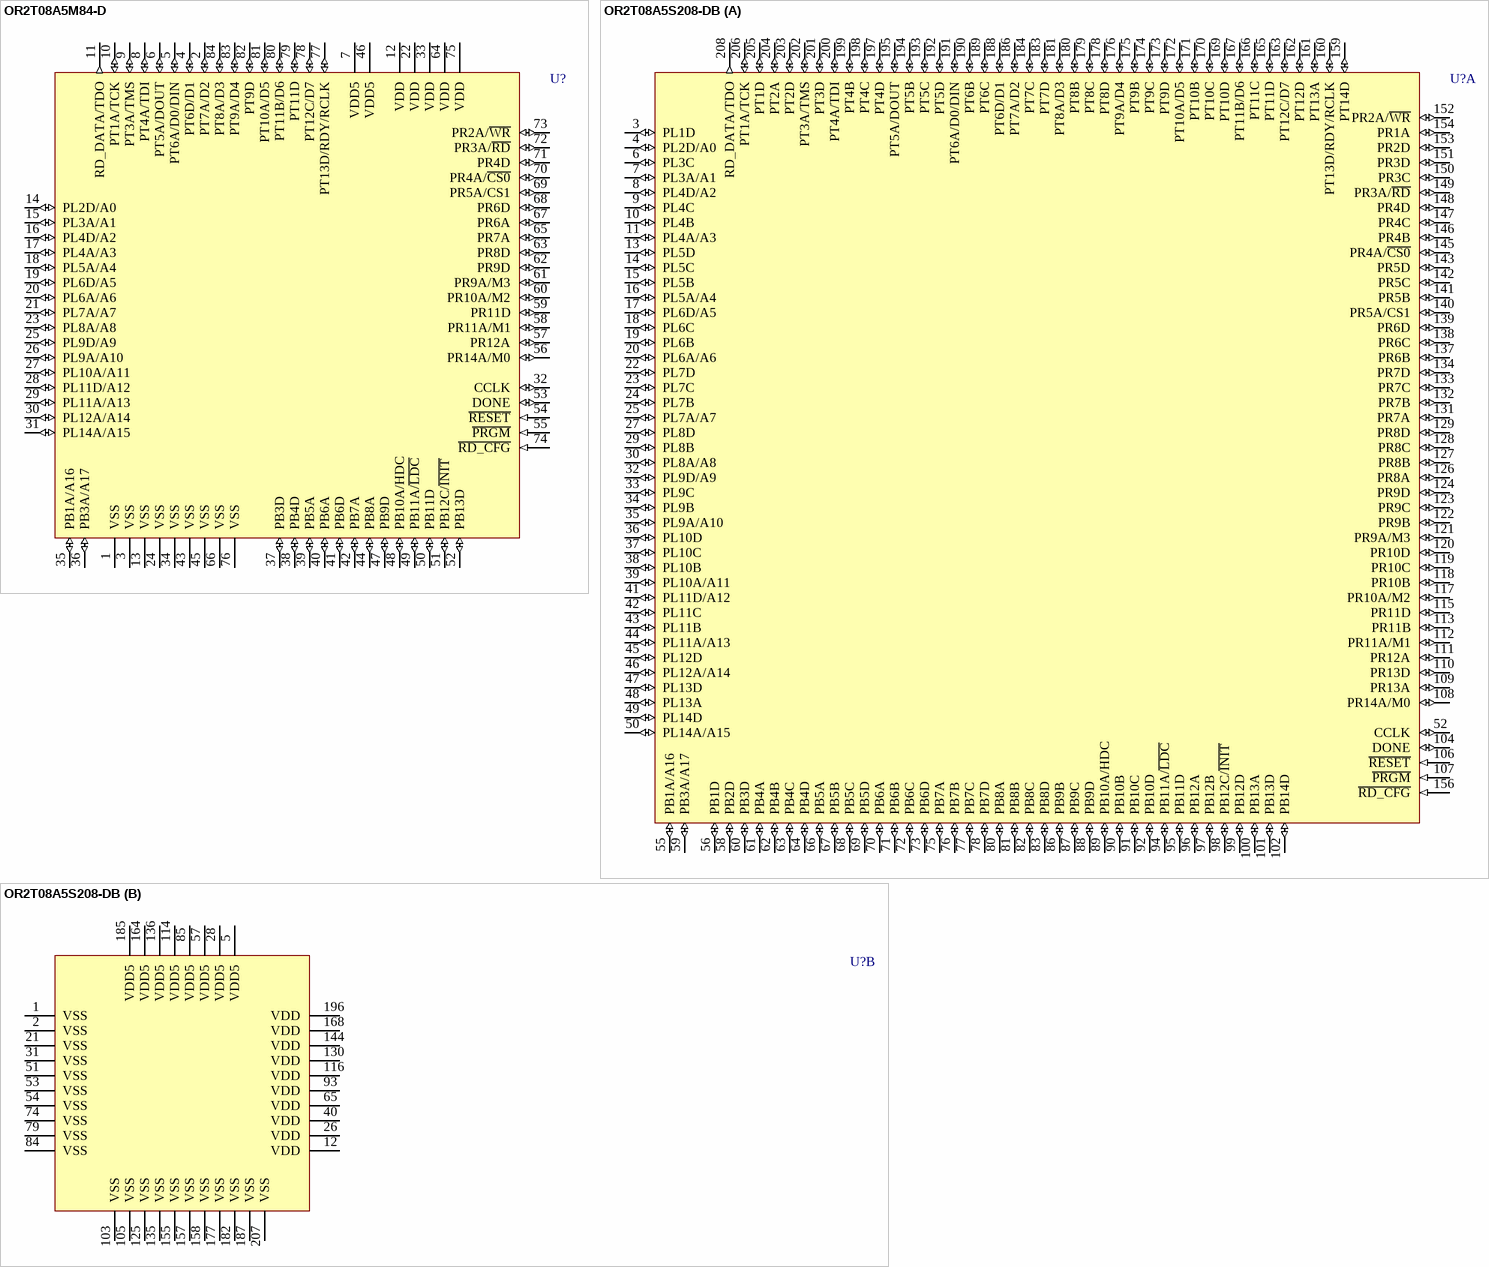
[diagram p97: symbols OR2T08A5M84-D to OR2T08A5S208-DB]

## OR2T08A5M84-D
designator U?
ORCA Series 2C FPGA: 3.3 V, Commercial Grade, 224 User I/Os.; Published: 21-May-2003; LatestRevisionDate: 13-Apr-2006; LatestRevisionNote: IPC-7351 Footprint Added.; DatasheetVersion: Jan-2003; PackageVersion: pkg_32, Aug-2005; PackageReference: PLCC84; Publisher: Altium Limited; PackageDescription: 84-Pin Leaded Chip Carrier 1.27 mm Pitch; Code_IPC: PLCC-84; ComponentLink1Description: Manufacturer Link; ComponentLink1URL: http://www.latticesemi.com/products/fpga/orca/orca2/index.cfm; ComponentLink2Description: Datasheet; ComponentLink2URL: http://www.latticesemi.com/lit/docs/datasheets/fpga/ds99-094fpga.pdf; ComponentLink3Description: Lattice Login; ComponentLink3URL: http://www.latticesemi.com/account/login.cfm
footprint PLCC84_N (Leaded Chip Carrier, 84-Leads, Body 29.3x29.3mm, Pitch 1.27mm, IPC Medium Density)
footprint PLCC84_L (Leaded Chip Carrier, 84-Leads, Body 29.3x29.3mm, Pitch 1.27mm, IPC High Density)
footprint PLCC84_M (Leaded Chip Carrier, 84-Leads, Body 29.3x29.3mm, Pitch 1.27mm, IPC Low Density)
3D model OR2T08A-PLCC84 (84-Pin Leaded Chip Carrier 1.27 mm Pitch)
pins: 1 VSS (power), 2 PT7A/D2 (io), 3 VSS (power), 4 PT6D/D1 (io), 5 PT6A/D0/DIN (io), 6 PT5A/DOUT (io), 7 VDD5 (power), 8 PT4A/TDI (io), 9 PT3A/TMS (io), 10 PT1A/TCK (io), 11 RD_DATA/TDO (out), 12 VDD (power), 13 VSS (power), 14 PL2D/A0 (io), 15 PL3A/A1 (io), 16 PL4D/A2 (io), 17 PL4A/A3 (io), 18 PL5A/A4 (io), 19 PL6D/A5 (io), 20 PL6A/A6 (io), 21 PL7A/A7 (io), 22 VDD (power), 23 PL8A/A8 (io), 24 VSS (power), 25 PL9D/A9 (io), 26 PL9A/A10 (io), 27 PL10A/A11 (io), 28 PL11D/A12 (io), 29 PL11A/A13 (io), 30 PL12A/A14 (io), 31 PL14A/A15 (io), 32 CCLK (io), 33 VDD (power), 34 VSS (power), 35 PB1A/A16 (io), 36 PB3A/A17 (io), 37 PB3D (io), 38 PB4D (io), 39 PB5A (io), 40 PB6A (io), 41 PB6D (io), 42 PB7A (io), 43 VSS (power), 44 PB8A (io), 45 VSS (power), 46 VDD5 (power), 47 PB9D (io), 48 PB10A/HDC (io), 49 PB11A/~{LDC} (io), 50 PB11D (io), 51 PB12C/~{INIT} (io), 52 PB13D (io), 53 DONE (io), 54 ~{RESET} (in), 55 ~{PRGM} (in), 56 PR14A/M0 (io), 57 PR12A (io), 58 PR11A/M1 (io), 59 PR11D (io), 60 PR10A/M2 (io), 61 PR9A/M3 (io), 62 PR9D (io), 63 PR8D (io), 64 VDD (power), 65 PR7A (io), 66 VSS (power), 67 PR6A (io), 68 PR6D (io), 69 PR5A/CS1 (io), 70 PR4A/~{CS0} (io), 71 PR4D (io), 72 PR3A/~{RD} (io), 73 PR2A/~{WR} (io), 74 ~{RD_CFG} (in), 75 VDD (power), 76 VSS (power), 77 PT13D/RDY/RCLK (io), 78 PT12C/D7 (io), 79 PT11D (io), 80 PT11B/D6 (io), 81 PT10A/D5 (io), 82 PT9D (io), 83 PT9A/D4 (io), 84 PT8A/D3 (io)

## OR2T08A5S208-DB
designator U?
ORCA Series 2C FPGA: 3.3 V, Commercial Grade, 224 User I/Os.; Published: 21-May-2003; LatestRevisionDate: 13-Apr-2006; LatestRevisionNote: IPC-7351 Footprint Added.; DatasheetVersion: Jan-2003; PackageVersion: pkg_32, Aug-2005; PackageReference: PQFP208; Publisher: Altium Limited; PackageDescription: 208-Pin Plastic Quad Flat Pack (PQFP208); Code_JEDEC: MO-143-FAI; ComponentLink1Description: Manufacturer Link; ComponentLink1URL: http://www.latticesemi.com/products/fpga/orca/orca2/index.cfm; ComponentLink2Description: Datasheet; ComponentLink2URL: http://www.latticesemi.com/lit/docs/datasheets/fpga/ds99-094fpga.pdf; ComponentLink3Description: Lattice Login; ComponentLink3URL: http://www.latticesemi.com/account/login.cfm
footprint PQFP208_N (Shrink QFP, 208-Leads, Body 28x28mm, Pitch 0.5mm, IPC Medium Density)
footprint PQFP208_L (Shrink QFP, 208-Leads, Body 28x28mm, Pitch 0.5mm, IPC High Density)
footprint PQFP208_M (Shrink QFP, 208-Leads, Body 28x28mm, Pitch 0.5mm, IPC Low Density)
3D model OR2T08A-PQFP208 (208-Pin Plastic Quad Flat Pack (PQFP208))
part A pins: 3 PL1D (io), 4 PL2D/A0 (io), 6 PL3C (io), 7 PL3A/A1 (io), 8 PL4D/A2 (io), 9 PL4C (io), 10 PL4B (io), 11 PL4A/A3 (io), 13 PL5D (io), 14 PL5C (io), 15 PL5B (io), 16 PL5A/A4 (io), 17 PL6D/A5 (io), 18 PL6C (io), 19 PL6B (io), 20 PL6A/A6 (io), 22 PL7D (io), 23 PL7C (io), 24 PL7B (io), 25 PL7A/A7 (io), 27 PL8D (io), 29 PL8B (io), 30 PL8A/A8 (io), 32 PL9D/A9 (io), 33 PL9C (io), 34 PL9B (io), 35 PL9A/A10 (io), 36 PL10D (io), 37 PL10C (io), 38 PL10B (io), 39 PL10A/A11 (io), 41 PL11D/A12 (io), 42 PL11C (io), 43 PL11B (io), 44 PL11A/A13 (io), 45 PL12D (io), 46 PL12A/A14 (io), 47 PL13D (io), 48 PL13A (io), 49 PL14D (io), 50 PL14A/A15 (io), 52 CCLK (io), 55 PB1A/A16 (io), 56 PB1D (io), 58 PB2D (io), 59 PB3A/A17 (io), 60 PB3D (io), 61 PB4A (io), 62 PB4B (io), 63 PB4C (io), 64 PB4D (io), 66 PB5A (io), 67 PB5B (io), 68 PB5C (io), 69 PB5D (io), 70 PB6A (io), 71 PB6B (io), 72 PB6C (io), 73 PB6D (io), 75 PB7A (io), 76 PB7B (io), 77 PB7C (io), 78 PB7D (io), 80 PB8A (io), 81 PB8B (io), 82 PB8C (io), 83 PB8D (io), 86 PB9B (io), 87 PB9C (io), 88 PB9D (io), 89 PB10A/HDC (io), 90 PB10B (io), 91 PB10C (io), 92 PB10D (io), 94 PB11A/~{LDC} (io), 95 PB11D (io), 96 PB12A (io), 97 PB12B (io), 98 PB12C/~{INIT} (io), 99 PB12D (io), 100 PB13A (io), 101 PB13D (io), 102 PB14D (io), 104 DONE (io), 106 ~{RESET} (in), 107 ~{PRGM} (in), 108 PR14A/M0 (io), 109 PR13A (io), 110 PR13D (io), 111 PR12A (io), 112 PR11A/M1 (io), 113 PR11B (io), 115 PR11D (io), 117 PR10A/M2 (io), 118 PR10B (io), 119 PR10C (io), 120 PR10D (io), 121 PR9A/M3 (io), 122 PR9B (io), 123 PR9C (io), 124 PR9D (io), 126 PR8A (io), 127 PR8B (io), 128 PR8C (io), 129 PR8D (io), 131 PR7A (io), 132 PR7B (io), 133 PR7C (io), 134 PR7D (io), 137 PR6B (io), 138 PR6C (io), 139 PR6D (io), 140 PR5A/CS1 (io), 141 PR5B (io), 142 PR5C (io), 143 PR5D (io), 145 PR4A/~{CS0} (io), 146 PR4B (io), 147 PR4C (io), 148 PR4D (io), 149 PR3A/~{RD} (io), 150 PR3C (io), 151 PR3D (io), 152 PR2A/~{WR} (io), 153 PR2D (io), 154 PR1A (io), 156 ~{RD_CFG} (in), 159 PT14D (io), 160 PT13D/RDY/RCLK (io), 161 PT13A (io), 162 PT12D (io), 163 PT12C/D7 (io), 165 PT11D (io), 166 PT11C (io), 167 PT11B/D6 (io), 169 PT10D (io), 170 PT10C (io), 171 PT10B (io), 172 PT10A/D5 (io), 173 PT9D (io), 174 PT9C (io), 175 PT9B (io), 176 PT9A/D4 (io), 178 PT8D (io), 179 PT8C (io), 180 PT8B (io), 181 PT8A/D3 (io), 183 PT7D (io), 184 PT7C (io), 186 PT7A/D2 (io), 188 PT6D/D1 (io), 189 PT6C (io), 190 PT6B (io), 191 PT6A/D0/DIN (io), 192 PT5D (io), 193 PT5C (io), 194 PT5B (io), 195 PT5A/DOUT (io), 197 PT4D (io), 198 PT4C (io), 199 PT4B (io), 200 PT4A/TDI (io), 201 PT3D (io), 202 PT3A/TMS (io), 203 PT2D (io), 204 PT2A (io), 205 PT1D (io), 206 PT1A/TCK (io), 208 RD_DATA/TDO (out)
part B pins: 1 VSS (power), 2 VSS (power), 5 VDD5 (power), 12 VDD (power), 21 VSS (power), 26 VDD (power), 28 VDD5 (power), 31 VSS (power), 40 VDD (power), 51 VSS (power), 53 VSS (power), 54 VSS (power), 57 VDD5 (power), 65 VDD (power), 74 VSS (power), 79 VSS (power), 84 VSS (power), 85 VDD5 (power), 93 VDD (power), 103 VSS (power), 105 VSS (power), 114 VDD5 (power), 116 VDD (power), 125 VSS (power), 130 VDD (power), 135 VSS (power), 136 VDD5 (power), 144 VDD (power), 155 VSS (power), 157 VSS (power), 158 VSS (power), 164 VDD5 (power), 168 VDD (power), 177 VSS (power), 182 VSS (power), 185 VDD5 (power), 187 VSS (power), 196 VDD (power), 207 VSS (power)

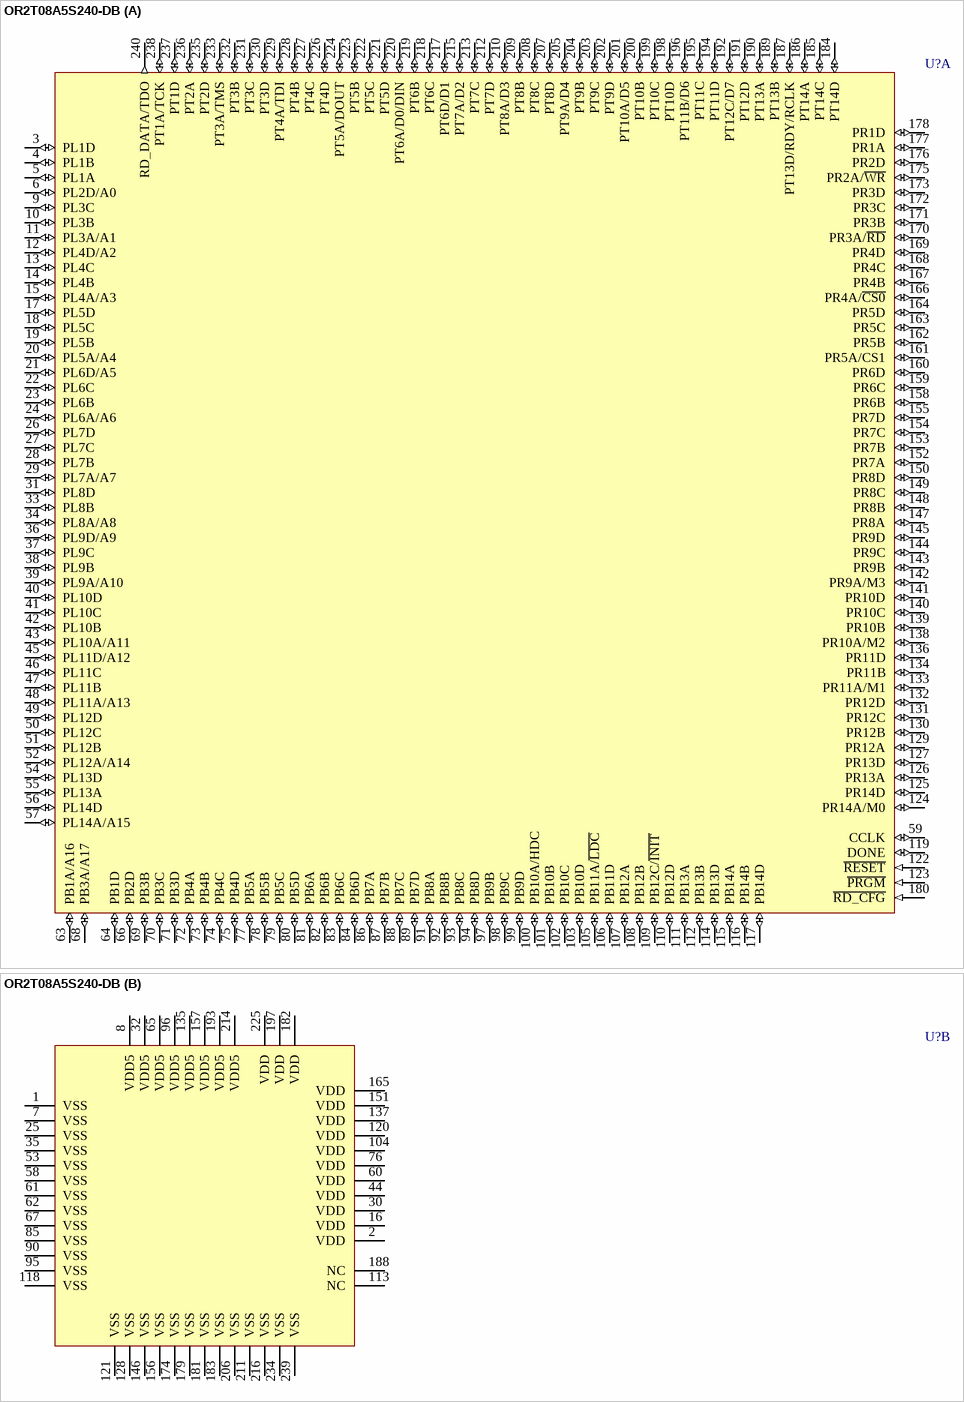
[diagram p98: symbol OR2T08A5S240-DB]